# Altium schematic symbol library st-microelectronics.SCHLIB: 66 symbols
Pins are listed as number, name and electrical type; pins without a type are passive.

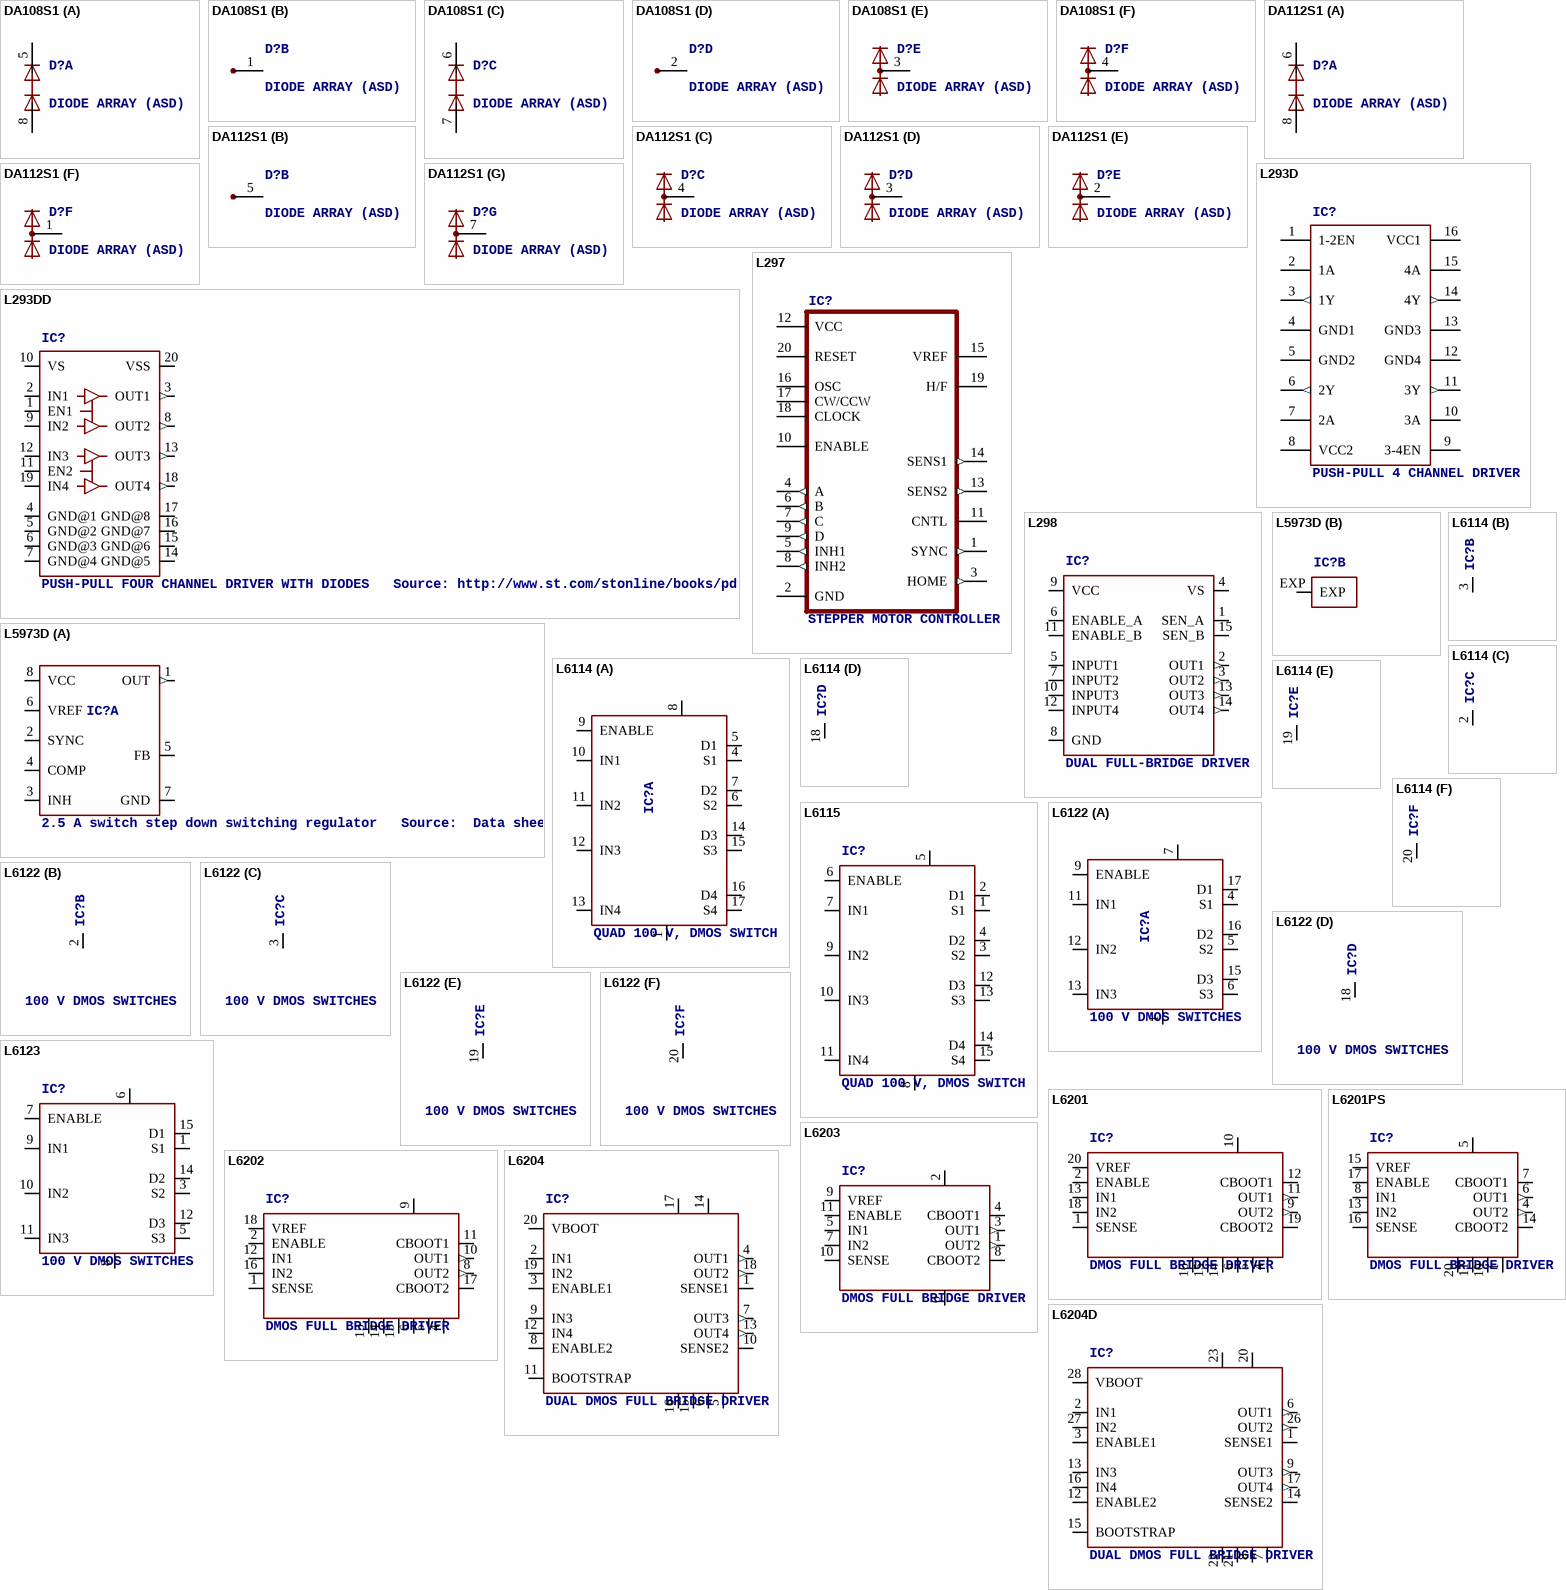
[diagram p0: symbols DA108S1 to L6204D]

## DA108S1
designator D?, comment DIODE ARRAY (ASD)
MPN: DA108S1; MF: Arrow Electronics; OC_FARNELL: 9802215; OC_NEWARK: 89K0513
footprint SO08
part A pins: 5 REF2, 8 REF1
part B pins: 1 K
part C pins: 6 REF2, 7 REF1
part D pins: 2 K
part E pins: 3 K
part F pins: 4 K

## DA112S1
designator D?, comment DIODE ARRAY (ASD)
MPN: DA112S1; MF: Arrow Electronics; OC_FARNELL: 9802223; OC_NEWARK: 89K0514
footprint SO08
part A pins: 6 REF2, 8 REF1
part B pins: 5 K
part C pins: 4 K
part D pins: 3 K
part E pins: 2 K
part F pins: 1 K
part G pins: 7 K

## L293D
designator IC?, comment PUSH-PULL 4 CHANNEL DRIVER
MPN: L293D; OC_FARNELL: 9589619; OC_NEWARK: 56P8249
footprint DIL16
pins: 1 1-2EN, 2 1A, 3 1Y (out), 4 GND1 (power), 5 GND2 (power), 6 2Y (out), 7 2A, 8 VCC2 (power), 9 3-4EN, 10 3A, 11 3Y (out), 12 GND4 (power), 13 GND3 (power), 14 4Y (out), 15 4A, 16 VCC1 (power)

## L293DD
designator IC?, comment PUSH-PULL FOUR CHANNEL DRIVER WITH DIODES   Source: http://www.st.com/stonline/books/pdf/docs/1330.pdf
OC_FARNELL: unknown
footprint SO20
pins: 1 EN1, 2 IN1, 3 OUT1 (out), 4 GND@1 (power), 5 GND@2 (power), 6 GND@3 (power), 7 GND@4 (power), 8 OUT2 (out), 9 IN2, 10 VS (power), 11 EN2, 12 IN3, 13 OUT3 (out), 14 GND@5 (power), 15 GND@6 (power), 16 GND@7 (power), 17 GND@8 (power), 18 OUT4 (out), 19 IN4, 20 VSS (power)

## L297
designator IC?, comment STEPPER MOTOR CONTROLLER
MPN: L297/1; OC_FARNELL: 1094209; OC_NEWARK: 56P8258
footprint DIL20
pins: 1 SYNC (out), 2 GND (power), 3 HOME (out), 4 A (out), 5 INH1 (out), 6 B (out), 7 C (out), 8 INH2 (out), 9 D (out), 10 ENABLE, 11 CNTL, 12 VCC (power), 13 SENS2 (out), 14 SENS1 (out), 15 VREF, 16 OSC, 17 CW/CCW, 18 CLOCK, 19 H/F, 20 RESET

## L298
designator IC?, comment DUAL FULL-BRIDGE DRIVER
MPN: L298N; OC_FARNELL: 1589425; OC_NEWARK: 32M1527
footprint MULTIWATT-15
pins: 1 SEN_A, 2 OUT1 (out), 3 OUT2 (out), 4 VS (power), 5 INPUT1, 6 ENABLE_A, 7 INPUT2, 8 GND (power), 9 VCC (power), 10 INPUT3, 11 ENABLE_B, 12 INPUT4, 13 OUT3 (out), 14 OUT4 (out), 15 SEN_B

## L5973D
designator IC?, comment 2.5 A switch step down switching regulator   Source:  Data sheet
MPN: L5973D; MF: STMICROELECTRONICS; OC_FARNELL: 1077145
footprint HSOP8
part A pins: 1 OUT (out), 2 SYNC, 3 INH, 4 COMP, 5 FB, 6 VREF, 7 GND (power), 8 VCC
part B pins: EXP

## L6114
designator IC?, comment QUAD 100 V, DMOS SWITCH
OC_FARNELL: unknown; OC_NEWARK: unknown
footprint DIL20
part A pins: 1 GND (power), 4 S1, 5 D1, 6 S2, 7 D2, 8 VCC (power), 9 ENABLE, 10 IN1, 11 IN2, 12 IN3, 13 IN4, 14 D3, 15 S3, 16 D4, 17 S4
part B pins: 3 GND (power)
part C pins: 2 GND (power)
part D pins: 18 GND (power)
part E pins: 19 GND (power)
part F pins: 20 GND (power)

## L6115
designator IC?, comment QUAD 100 V, DMOS SWITCH
OC_FARNELL: unknown; OC_NEWARK: unknown
footprint MULTIWATT-15
pins: 1 S1, 2 D1, 3 S2, 4 D2, 5 VCC (power), 6 ENABLE, 7 IN1, 8 GND (power), 9 IN2, 10 IN3, 11 IN4, 12 D3, 13 S3, 14 D4, 15 S4

## L6122
designator IC?, comment 100 V DMOS SWITCHES
OC_FARNELL: unknown; OC_NEWARK: unknown
footprint DIL20
part A pins: 1 GND (power), 4 S1, 5 S2, 6 S3, 7 VCC (power), 9 ENABLE, 11 IN1, 12 IN2, 13 IN3, 15 D3, 16 D2, 17 D1
part B pins: 2 GND (power)
part C pins: 3 GND (power)
part D pins: 18 GND (power)
part E pins: 19 GND (power)
part F pins: 20 GND (power)

## L6123
designator IC?, comment 100 V DMOS SWITCHES
OC_FARNELL: unknown; OC_NEWARK: unknown
footprint MULTIWATT-15
pins: 1 S1, 3 S2, 5 S3, 6 VCC (power), 7 ENABLE, 8 GND (power), 9 IN1, 10 IN2, 11 IN3, 12 D3, 14 D2, 15 D1

## L6201
designator IC?, comment DMOS FULL BRIDGE DRIVER
MPN: L6201; MF: Arrow Electronics; OC_FARNELL: 1271290; OC_NEWARK: 89K0750
footprint SO20
pins: 1 SENSE, 2 ENABLE, 4 GND (power), 5 GND@1 (power), 6 GND@2 (power), 9 OUT2 (out), 10 VS (power), 11 OUT1 (out), 12 CBOOT1, 13 IN1, 14 GND@3 (power), 15 GND@4 (power), 16 GND@5 (power), 18 IN2, 19 CBOOT2, 20 VREF

## L6201PS
designator IC?, comment DMOS FULL BRIDGE DRIVER
MPN: L6201PS; MF: Arrow Electronics; OC_FARNELL: 1077146; OC_NEWARK: 89K0751
footprint POWERSO-20
pins: 1 GND (power), 4 OUT2 (out), 5 VS (power), 6 OUT1 (out), 7 CBOOT1, 8 IN1, 10 GND@1 (power), 11 GND@2 (power), 13 IN2, 14 CBOOT2, 15 VREF, 16 SENSE, 17 ENABLE, 20 GND@3 (power)

## L6202
designator IC?, comment DMOS FULL BRIDGE DRIVER
MPN: L6202; OC_FARNELL: 1271291; OC_NEWARK: 26M0513
footprint DIL18
pins: 1 SENSE, 2 ENABLE, 4 GND (power), 5 GND@1 (power), 6 GND@2 (power), 8 OUT2 (out), 9 VS (power), 10 OUT1 (out), 11 CBOOT1, 12 IN1, 13 GND@3 (power), 14 GND@4 (power), 15 GND@5 (power), 16 IN2, 17 CBOOT2, 18 VREF

## L6203
designator IC?, comment DMOS FULL BRIDGE DRIVER
MPN: L6203; OC_FARNELL: 1467715; OC_NEWARK: 56P8434
footprint MULTIWATT-11
pins: 1 OUT2 (out), 2 VS (power), 3 OUT1 (out), 4 CBOOT1, 5 IN1, 6 GND (power), 7 IN2, 8 CBOOT2, 9 VREF, 10 SENSE, 11 ENABLE

## L6204
designator IC?, comment DUAL DMOS FULL BRIDGE DRIVER
MPN: E-L6204; OC_FARNELL: 1564367; OC_NEWARK: 56P7372
footprint DIL20
pins: 1 SENSE1, 2 IN1, 3 ENABLE1, 4 OUT1 (out), 5 GND (power), 6 GND@1 (power), 7 OUT3 (out), 8 ENABLE2, 9 IN3, 10 SENSE2, 11 BOOTSTRAP, 12 IN4, 13 OUT4 (out), 14 VS2 (power), 15 GND@2 (power), 16 GND@3 (power), 17 VS1 (power), 18 OUT2 (out), 19 IN2, 20 VBOOT

## L6204D
designator IC?, comment DUAL DMOS FULL BRIDGE DRIVER
MPN: L6204D; OC_FARNELL: unknown; OC_NEWARK: 37M3485
footprint SO28
pins: 1 SENSE1, 2 IN1, 3 ENABLE1, 6 OUT1 (out), 7 GND (power), 8 GND@1 (power), 9 OUT3 (out), 12 ENABLE2, 13 IN3, 14 SENSE2, 15 BOOTSTRAP, 16 IN4, 17 OUT4 (out), 20 VS2 (power), 21 GND@2 (power), 22 GND@3 (power), 23 VS1 (power), 26 OUT2 (out), 27 IN2, 28 VBOOT

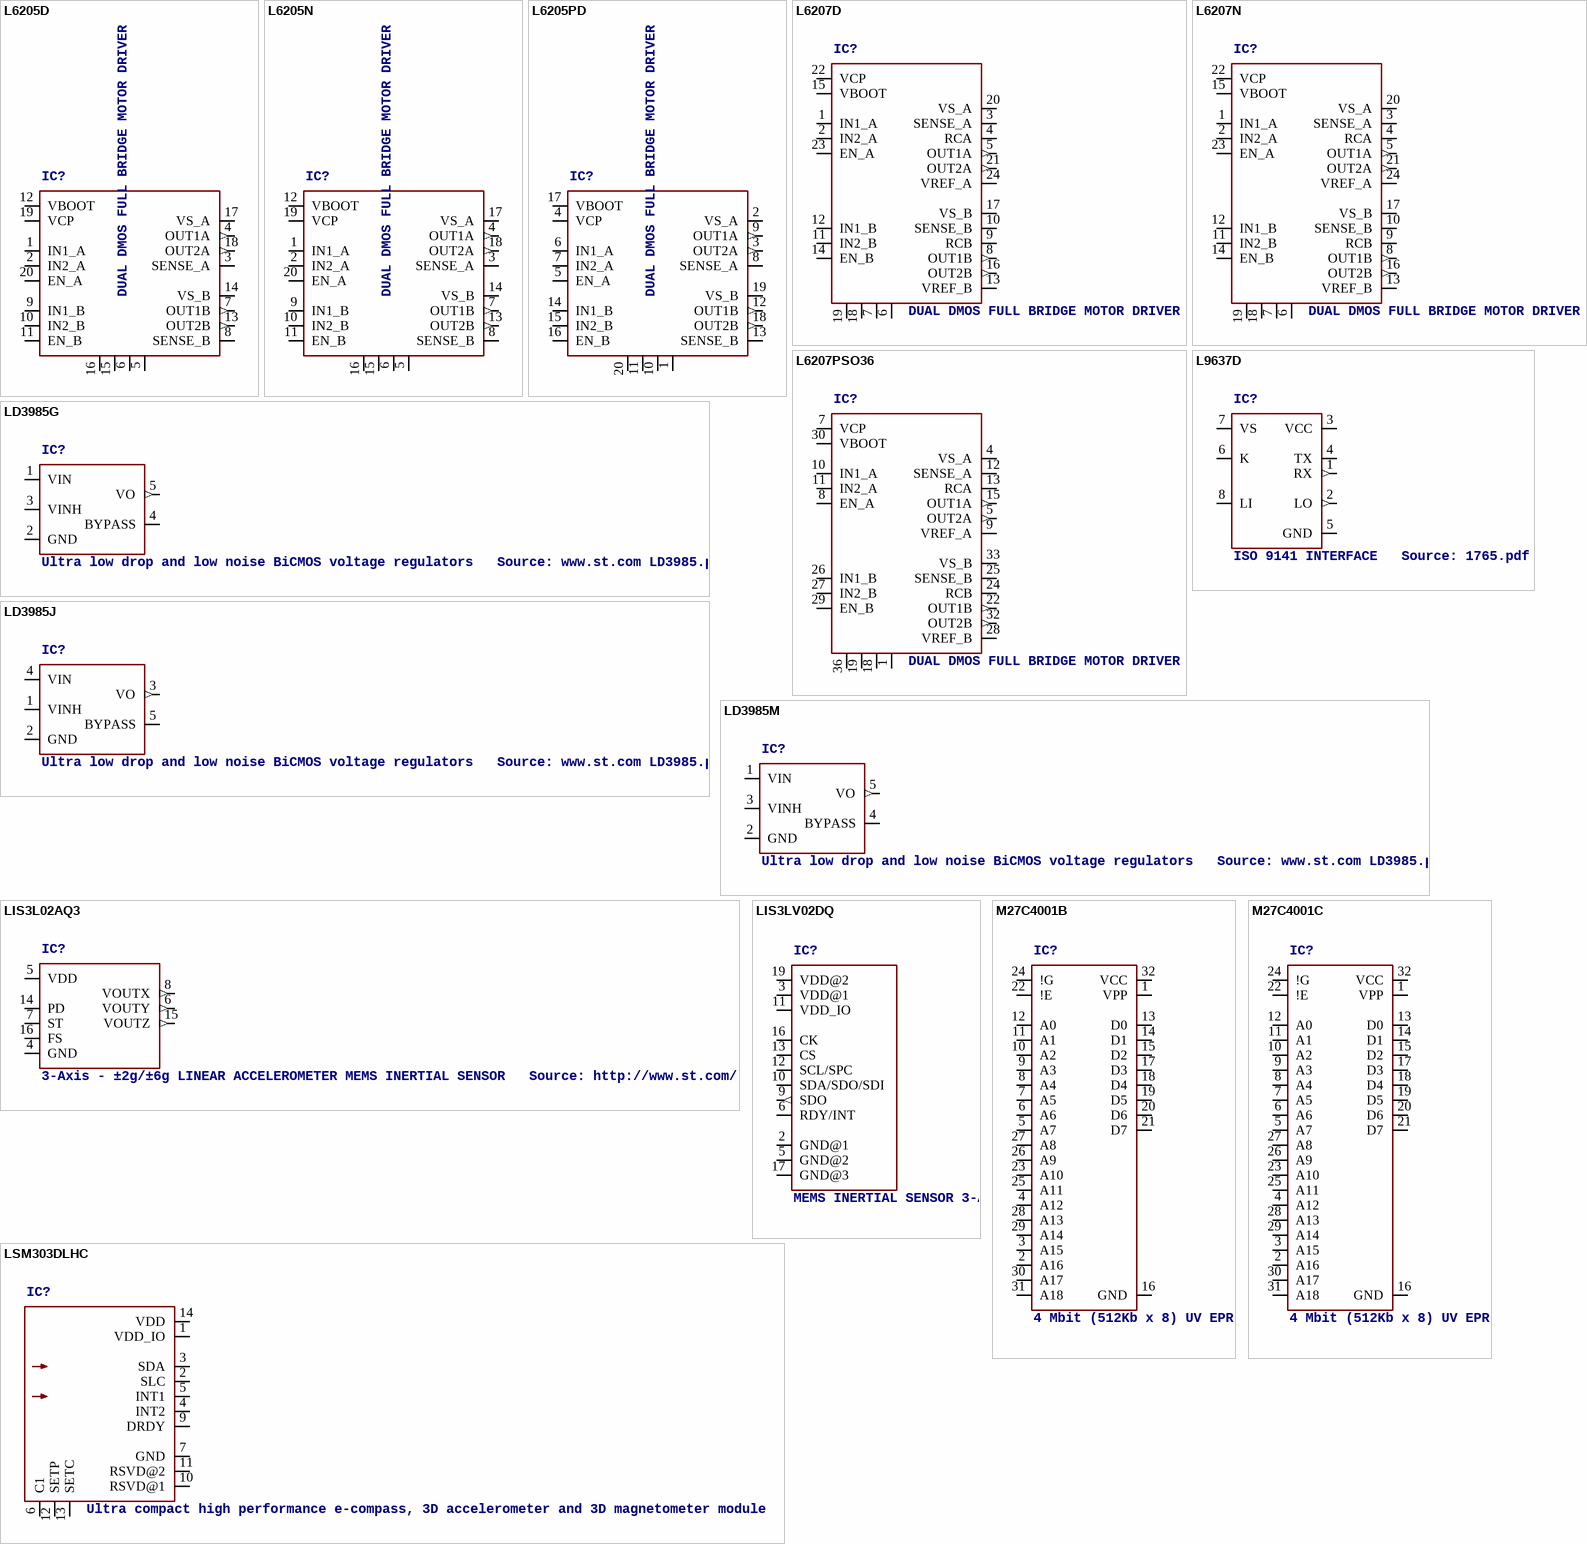
[diagram p1: symbols L6205D to M27C4001C]

## L6205D
designator IC?, comment DUAL DMOS FULL BRIDGE MOTOR DRIVER
MPN: L6205D; OC_FARNELL: unknown; OC_NEWARK: 37M3487
footprint SO20
pins: 1 IN1_A, 2 IN2_A, 3 SENSE_A, 4 OUT1A (out), 5 GND (power), 6 GND@1 (power), 7 OUT1B (out), 8 SENSE_B, 9 IN1_B, 10 IN2_B, 11 EN_B, 12 VBOOT (power), 13 OUT2B (out), 14 VS_B (power), 15 GND@2 (power), 16 GND@3 (power), 17 VS_A (power), 18 OUT2A (out), 19 VCP (power), 20 EN_A

## L6205N
designator IC?, comment DUAL DMOS FULL BRIDGE MOTOR DRIVER
MPN: L6205N; MF: Arrow Electronics; OC_FARNELL: 1564367; OC_NEWARK: 89K0754
footprint DIL20
pins: 1 IN1_A, 2 IN2_A, 3 SENSE_A, 4 OUT1A (out), 5 GND (power), 6 GND@1 (power), 7 OUT1B (out), 8 SENSE_B, 9 IN1_B, 10 IN2_B, 11 EN_B, 12 VBOOT (power), 13 OUT2B (out), 14 VS_B (power), 15 GND@2 (power), 16 GND@3 (power), 17 VS_A (power), 18 OUT2A (out), 19 VCP (power), 20 EN_A

## L6205PD
designator IC?, comment DUAL DMOS FULL BRIDGE MOTOR DRIVER
MPN: L6205PD; MF: Arrow Electronics; OC_FARNELL: unknown; OC_NEWARK: 89K0755
footprint POWERSO-20
pins: 1 GND (power), 2 VS_A (power), 3 OUT2A (out), 4 VCP (power), 5 EN_A, 6 IN1_A, 7 IN2_A, 8 SENSE_A, 9 OUT1A (out), 10 GND@1 (power), 11 GND@2 (power), 12 OUT1B (out), 13 SENSE_B, 14 IN1_B, 15 IN2_B, 16 EN_B, 17 VBOOT (power), 18 OUT2B (out), 19 VS_B (power), 20 GND@3 (power)

## L6207D
designator IC?, comment DUAL DMOS FULL BRIDGE MOTOR DRIVER
MPN: L6207D; OC_FARNELL: unknown; OC_NEWARK: 42M9976
footprint SO24W
pins: 1 IN1_A, 2 IN2_A, 3 SENSE_A, 4 RCA, 5 OUT1A (out), 6 GND (power), 7 GND@1 (power), 8 OUT1B (out), 9 RCB, 10 SENSE_B, 11 IN2_B, 12 IN1_B, 13 VREF_B, 14 EN_B, 15 VBOOT (power), 16 OUT2B (out), 17 VS_B (power), 18 GND@2 (power), 19 GND@3 (power), 20 VS_A (power), 21 OUT2A (out), 22 VCP (power), 23 EN_A, 24 VREF_A

## L6207N
designator IC?, comment DUAL DMOS FULL BRIDGE MOTOR DRIVER
MPN: L6207N; OC_FARNELL: unknown; OC_NEWARK: 56P8447
footprint DIL24S
pins: 1 IN1_A, 2 IN2_A, 3 SENSE_A, 4 RCA, 5 OUT1A (out), 6 GND (power), 7 GND@1 (power), 8 OUT1B (out), 9 RCB, 10 SENSE_B, 11 IN2_B, 12 IN1_B, 13 VREF_B, 14 EN_B, 15 VBOOT (power), 16 OUT2B (out), 17 VS_B (power), 18 GND@2 (power), 19 GND@3 (power), 20 VS_A (power), 21 OUT2A (out), 22 VCP (power), 23 EN_A, 24 VREF_A

## L6207PSO36
designator IC?, comment DUAL DMOS FULL BRIDGE MOTOR DRIVER
OC_FARNELL: unknown; OC_NEWARK: 56P8448
footprint POWERSO-36
pins: 1 GND (power), 4 VS_A (power), 5 OUT2A (out), 7 VCP (power), 8 EN_A, 9 VREF_A, 10 IN1_A, 11 IN2_A, 12 SENSE_A, 13 RCA, 15 OUT1A (out), 18 GND@1 (power), 19 GND@2 (power), 22 OUT1B (out), 24 RCB, 25 SENSE_B, 26 IN1_B, 27 IN2_B, 28 VREF_B, 29 EN_B, 30 VBOOT (power), 32 OUT2B (out), 33 VS_B (power), 36 GND@3 (power)

## L9637D
designator IC?, comment ISO 9141 INTERFACE   Source: 1765.pdf
MPN: L9637D; OC_FARNELL: unknown; OC_NEWARK: 56P8926
footprint SO08
pins: 1 RX (out), 2 LO (out), 3 VCC (power), 4 TX, 5 GND (power), 6 K, 7 VS (power), 8 LI

## LD3985G
designator IC?, comment Ultra low drop and low noise BiCMOS voltage regulators   Source: www.st.com LD3985.pdf
footprint TSOT23-5L
pins: 1 VIN, 2 GND (power), 3 VINH, 4 BYPASS, 5 VO (out)

## LD3985J
designator IC?, comment Ultra low drop and low noise BiCMOS voltage regulators   Source: www.st.com LD3985.pdf
footprint FLIP-CHIP-5
pins: 1 VINH, 2 GND (power), 3 VO (out), 4 VIN, 5 BYPASS

## LD3985M
designator IC?, comment Ultra low drop and low noise BiCMOS voltage regulators   Source: www.st.com LD3985.pdf
footprint SOT23-5L
pins: 1 VIN, 2 GND (power), 3 VINH, 4 BYPASS, 5 VO (out)

## LIS3L02AQ3
designator IC?, comment 3-Axis - ±2g/±6g LINEAR ACCELEROMETER MEMS INERTIAL SENSOR   Source: http://www.st.com/stonline/products/literature/ds/11020.pdf
MPN: LIS3L02AQ3; MF: Arrow Electronics; OC_FARNELL: 1467821; OC_NEWARK: 89K0645
footprint QFN-44-7X7
pins: 4 GND (power), 5 VDD (power), 6 VOUTY (out), 7 ST, 8 VOUTX (out), 14 PD, 15 VOUTZ (out), 16 FS

## LIS3LV02DQ
designator IC?, comment MEMS INERTIAL SENSOR 3-Axis - ±2g/±6g Digital Output Low Voltage Linear Accelerometer   Source: http://www.st.com/stonline/products/literature/ds/11115/lis3lv02dq.pdf
MF: Arrow Electronics; MPN: LIS3LV02DQ; OC_FARNELL: 1220909; OC_NEWARK: 89K0642
footprint QFPN-28
pins: 2 GND@1 (power), 3 VDD@1 (power), 5 GND@2 (power), 6 RDY/INT, 9 SDO (out), 10 SDA/SDO/SDI, 11 VDD_IO (power), 12 SCL/SPC, 13 CS, 16 CK, 17 GND@3 (power), 19 VDD@2 (power)

## LSM303DLHC
designator IC?, comment Ultra compact high performance e-compass, 3D accelerometer and 3D magnetometer module   Source: DM00027543-118326.pdf
footprint LGA-14
pins: 1 VDD_IO (power), 2 SLC, 3 SDA, 4 INT2, 5 INT1, 6 C1, 7 GND (power), 9 DRDY, 10 RSVD@1, 11 RSVD@2, 12 SETP, 13 SETC, 14 VDD (power)

## M27C4001B
designator IC?, comment 4 Mbit (512Kb x 8) UV EPROM and OTP EPROM   Source: www.st.com .. M27C4001 EPROM 4 MBIT.pdf
MPN: M27C4001-10B1; OC_FARNELL: 3338137; OC_NEWARK: 56P9200
footprint DIL32
pins: 1 VPP (power), 2 A16, 3 A15, 4 A12, 5 A7, 6 A6, 7 A5, 8 A4, 9 A3, 10 A2, 11 A1, 12 A0, 13 D0 (hiz), 14 D1 (hiz), 15 D2 (hiz), 16 GND (power), 17 D3 (hiz), 18 D4 (hiz), 19 D5 (hiz), 20 D6 (hiz), 21 D7 (hiz), 22 !E, 23 A10, 24 !G, 25 A11, 26 A9, 27 A8, 28 A13, 29 A14, 30 A17, 31 A18, 32 VCC (power)

## M27C4001C
designator IC?, comment 4 Mbit (512Kb x 8) UV EPROM and OTP EPROM   Source: www.st.com .. M27C4001 EPROM 4 MBIT.pdf
MPN: M27C4001-10C1; OC_FARNELL: 1094260; OC_NEWARK: 24M5086
footprint LCC32
pins: 1 VPP (power), 2 A16, 3 A15, 4 A12, 5 A7, 6 A6, 7 A5, 8 A4, 9 A3, 10 A2, 11 A1, 12 A0, 13 D0 (hiz), 14 D1 (hiz), 15 D2 (hiz), 16 GND (power), 17 D3 (hiz), 18 D4 (hiz), 19 D5 (hiz), 20 D6 (hiz), 21 D7 (hiz), 22 !E, 23 A10, 24 !G, 25 A11, 26 A9, 27 A8, 28 A13, 29 A14, 30 A17, 31 A18, 32 VCC (power)

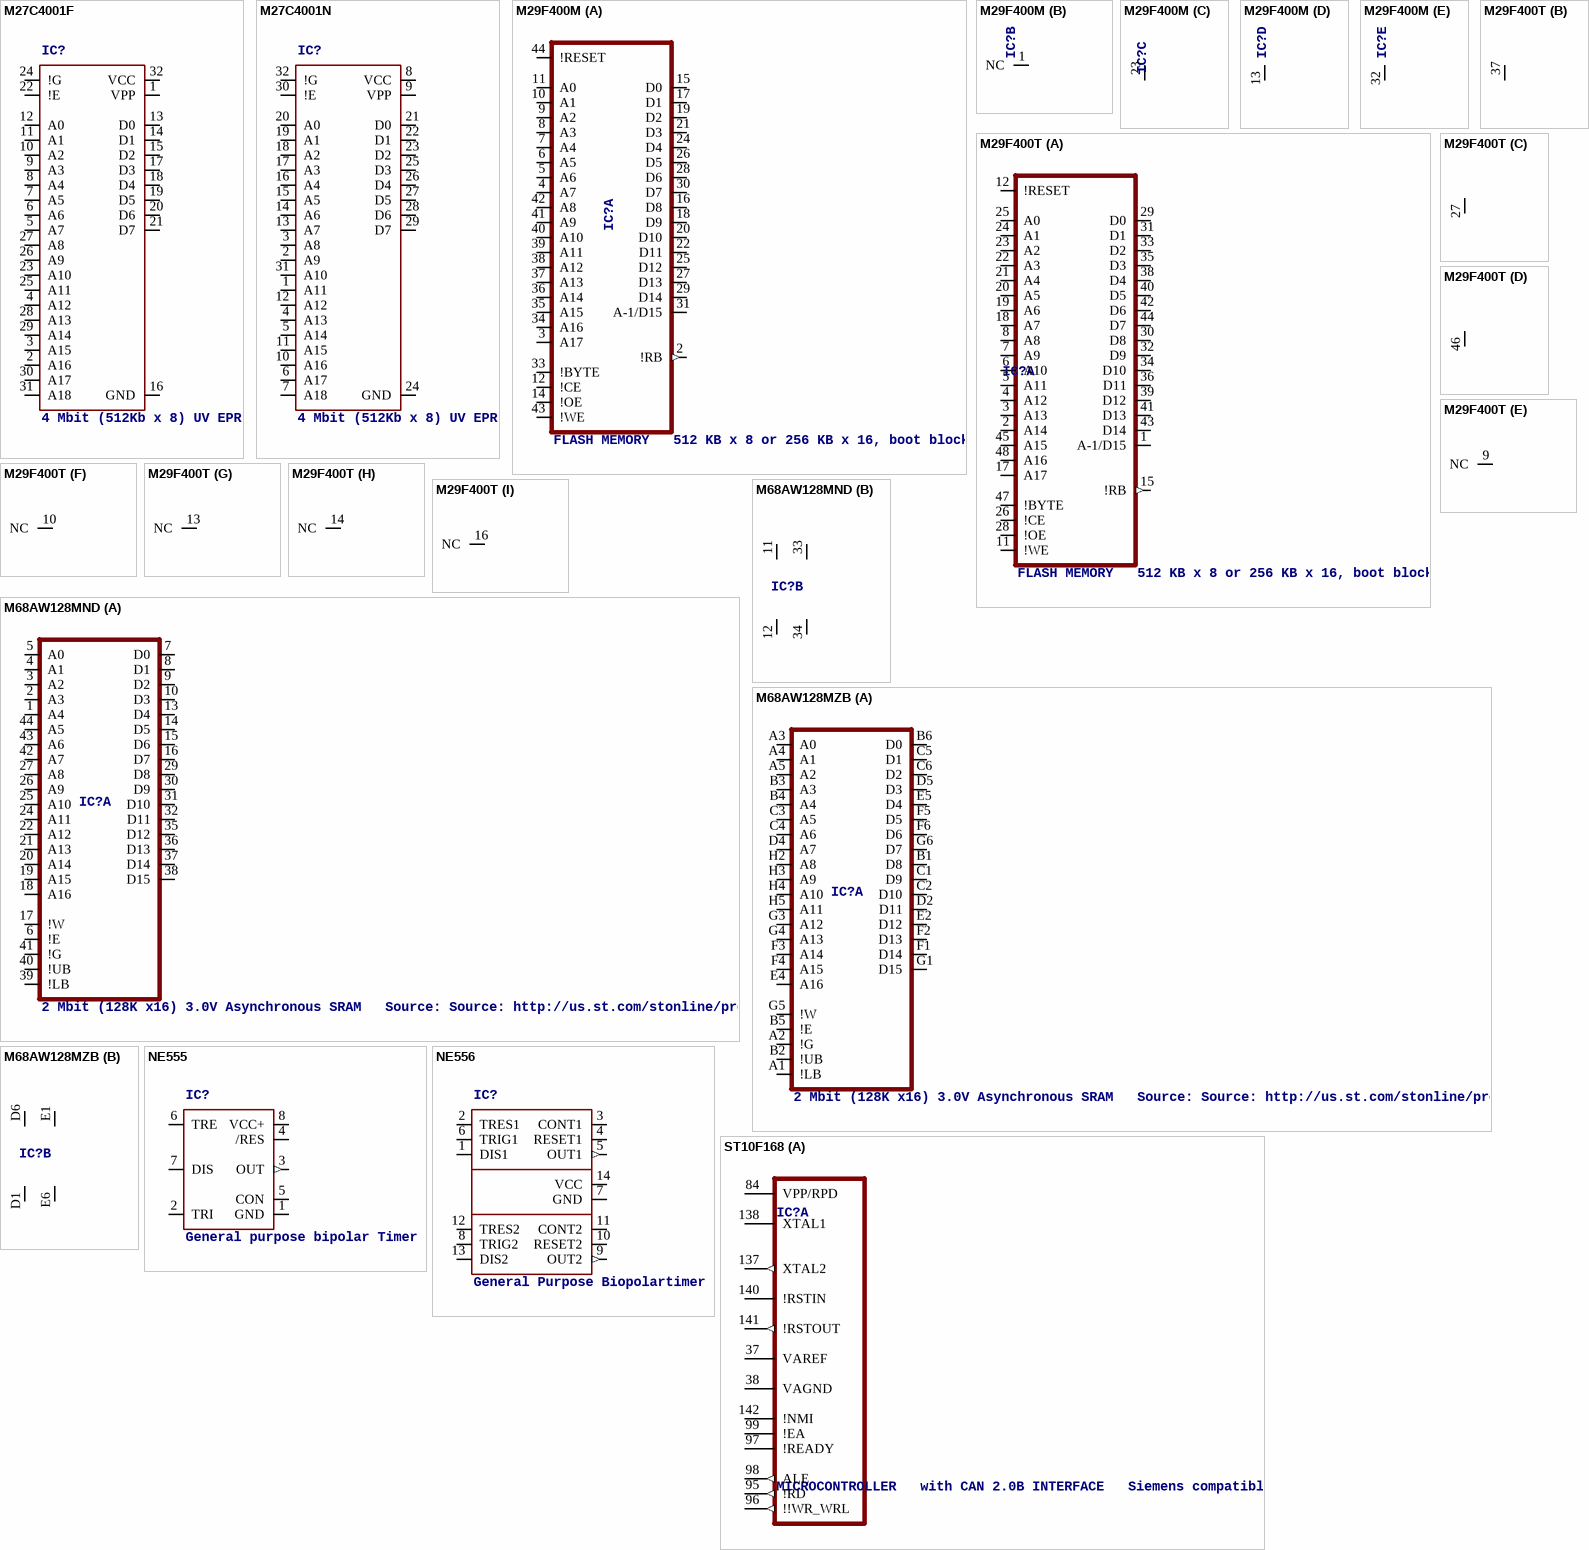
[diagram p2: symbols M27C4001F to ST10F168]

## M27C4001F
designator IC?, comment 4 Mbit (512Kb x 8) UV EPROM and OTP EPROM   Source: www.st.com .. M27C4001 EPROM 4 MBIT.pdf
MPN: M27C4001-15F1; OC_FARNELL: 1132004; OC_NEWARK: 24M5087
footprint FDIP32
pins: 1 VPP (power), 2 A16, 3 A15, 4 A12, 5 A7, 6 A6, 7 A5, 8 A4, 9 A3, 10 A2, 11 A1, 12 A0, 13 D0 (hiz), 14 D1 (hiz), 15 D2 (hiz), 16 GND (power), 17 D3 (hiz), 18 D4 (hiz), 19 D5 (hiz), 20 D6 (hiz), 21 D7 (hiz), 22 !E, 23 A10, 24 !G, 25 A11, 26 A9, 27 A8, 28 A13, 29 A14, 30 A17, 31 A18, 32 VCC (power)

## M27C4001N
designator IC?, comment 4 Mbit (512Kb x 8) UV EPROM and OTP EPROM   Source: www.st.com .. M27C4001 EPROM 4 MBIT.pdf
OC_FARNELL: unknown; OC_NEWARK: unknown
footprint TSOP32
pins: 1 A11, 2 A9, 3 A8, 4 A13, 5 A14, 6 A17, 7 A18, 8 VCC (power), 9 VPP (power), 10 A16, 11 A15, 12 A12, 13 A7, 14 A6, 15 A5, 16 A4, 17 A3, 18 A2, 19 A1, 20 A0, 21 D0 (hiz), 22 D1 (hiz), 23 D2 (hiz), 24 GND (power), 25 D3 (hiz), 26 D4 (hiz), 27 D5 (hiz), 28 D6 (hiz), 29 D7 (hiz), 30 !E, 31 A10, 32 !G

## M29F400M
designator IC?, comment FLASH MEMORY   512 KB x 8 or 256 KB x 16, boot block
MPN: AM29F400BB-90SF; MF: SPANSION LLC; OC_FARNELL: 1607577; OC_NEWARK: 58K5516
footprint SO44
part A pins: 2 !RB (out), 3 A17, 4 A7, 5 A6, 6 A5, 7 A4, 8 A3, 9 A2, 10 A1, 11 A0, 12 !CE, 14 !OE, 15 D0 (hiz), 16 D8 (hiz), 17 D1 (hiz), 18 D9 (hiz), 19 D2 (hiz), 20 D10 (hiz), 21 D3 (hiz), 22 D11 (hiz), 24 D4 (hiz), 25 D12 (hiz), 26 D5 (hiz), 27 D13 (hiz), 28 D6 (hiz), 29 D14 (hiz), 30 D7 (hiz), 31 A-1/D15 (hiz), 33 !BYTE, 34 A16, 35 A15, 36 A14, 37 A13, 38 A12, 39 A11, 40 A10, 41 A9, 42 A8, 43 !WE, 44 !RESET
part B pins: 1 NC
part C pins: 23 VCC (power)
part D pins: 13 GND (power)
part E pins: 32 GND (power)

## M29F400T
designator IC?, comment FLASH MEMORY   512 KB x 8 or 256 KB x 16, boot block
MPN: MBM29F400TC-70PFTN-SFLE1; OC_FARNELL: 1201518; OC_NEWARK: 89M1908
footprint TSOP48
part A pins: 1 A-1/D15 (hiz), 2 A14, 3 A13, 4 A12, 5 A11, 6 A10, 7 A9, 8 A8, 11 !WE, 12 !RESET, 15 !RB (out), 17 A17, 18 A7, 19 A6, 20 A5, 21 A4, 22 A3, 23 A2, 24 A1, 25 A0, 26 !CE, 28 !OE, 29 D0 (hiz), 30 D8 (hiz), 31 D1 (hiz), 32 D9 (hiz), 33 D2 (hiz), 34 D10 (hiz), 35 D3 (hiz), 36 D11 (hiz), 38 D4 (hiz), 39 D12 (hiz), 40 D5 (hiz), 41 D13 (hiz), 42 D6 (hiz), 43 D14 (hiz), 44 D7 (hiz), 45 A15, 47 !BYTE, 48 A16
part B pins: 37 VCC (power)
part C pins: 27 GND (power)
part D pins: 46 GND (power)
part E pins: 9 NC
part F pins: 10 NC
part G pins: 13 NC
part H pins: 14 NC
part I pins: 16 NC

## M68AW128MND
designator IC?, comment 2 Mbit (128K x16) 3.0V Asynchronous SRAM   Source: Source: http://us.st.com/stonline/products/literature/ds/7995.pdf
OC_FARNELL: unknown; OC_NEWARK: unknown
footprint TSOP44-II
part A pins: 1 A4, 2 A3, 3 A2, 4 A1, 5 A0, 6 !E, 7 D0 (hiz), 8 D1 (hiz), 9 D2 (hiz), 10 D3 (hiz), 13 D4 (hiz), 14 D5 (hiz), 15 D6 (hiz), 16 D7 (hiz), 17 !W, 18 A16, 19 A15, 20 A14, 21 A13, 22 A12, 24 A11, 25 A10, 26 A9, 27 A8, 29 D8 (hiz), 30 D9 (hiz), 31 D10 (hiz), 32 D11 (hiz), 35 D12 (hiz), 36 D13 (hiz), 37 D14 (hiz), 38 D15 (hiz), 39 !LB, 40 !UB, 41 !G, 42 A7, 43 A6, 44 A5
part B pins: 11 VCC@1 (power), 12 VSS@1 (power), 33 VCC@2 (power), 34 VSS@2 (power)

## M68AW128MZB
designator IC?, comment 2 Mbit (128K x16) 3.0V Asynchronous SRAM   Source: Source: http://us.st.com/stonline/products/literature/ds/7995.pdf
MPN: M68AW128ML70ZB6; OC_FARNELL: unknown; OC_NEWARK: 37M5198
footprint TFBGA48
part A pins: A1 !LB, A2 !G, A3 A0, A4 A1, A5 A2, B1 D8 (hiz), B2 !UB, B3 A3, B4 A4, B5 !E, B6 D0 (hiz), C1 D9 (hiz), C2 D10 (hiz), C3 A5, C4 A6, C5 D1 (hiz), C6 D2 (hiz), D2 D11 (hiz), D4 A7, D5 D3 (hiz), E2 D12 (hiz), E4 A16, E5 D4 (hiz), F1 D14 (hiz), F2 D13 (hiz), F3 A14, F4 A15, F5 D5 (hiz), F6 D6 (hiz), G1 D15 (hiz), G3 A12, G4 A13, G5 !W, G6 D7 (hiz), H2 A8, H3 A9, H4 A10, H5 A11
part B pins: D1 VSS@1 (power), D6 VCC@1 (power), E1 VCC@2 (power), E6 VSS@2 (power)

## NE555
designator IC?, comment General purpose bipolar Timer
MPN: NE555N; MF: Arrow Electronics; OC_FARNELL: 1467742; OC_NEWARK: 89K1486
footprint DIL-08
pins: 1 GND (power), 2 TRI, 3 OUT (out), 4 /RES, 5 CON, 6 TRE, 7 DIS, 8 VCC+ (power)

## NE556
designator IC?, comment General Purpose Biopolartimer
MPN: NE556; OC_FARNELL: 2349784; OC_NEWARK: 83C0108
footprint DIL14
pins: 1 DIS1, 2 TRES1, 3 CONT1, 4 RESET1, 5 OUT1 (out), 6 TRIG1, 7 GND (power), 8 TRIG2, 9 OUT2 (out), 10 RESET2, 11 CONT2, 12 TRES2, 13 DIS2, 14 VCC (power)

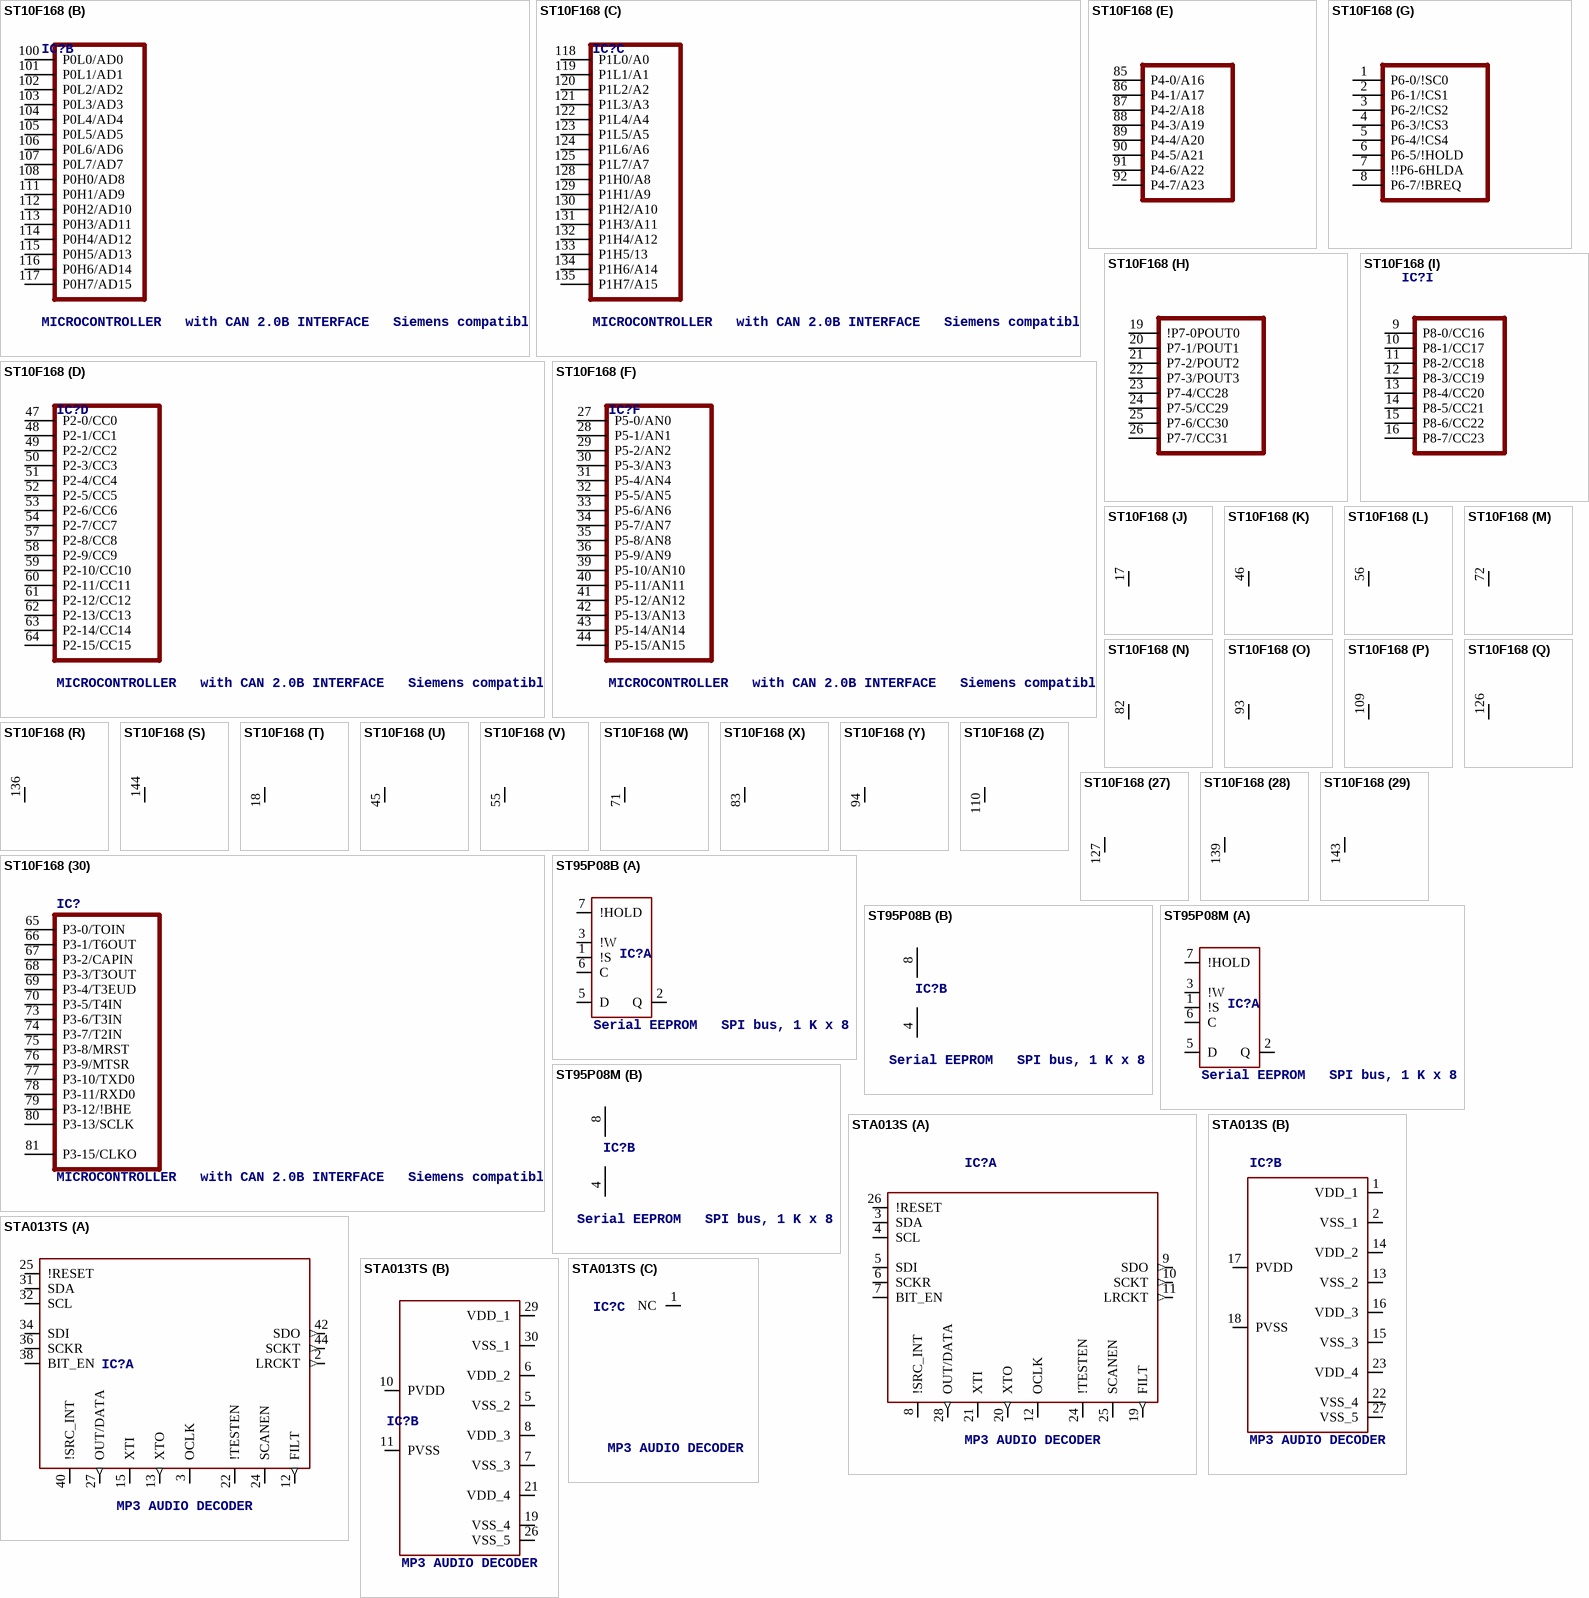
[diagram p3: symbols ST10F168 to STA013TS]

## ST10F168
designator IC?, comment MICROCONTROLLER   with CAN 2.0B INTERFACE   Siemens compatible
MPN: ST10F168SQ6/TR; OC_FARNELL: 1796092; OC_NEWARK: 37M7384
footprint PQFP144-28X28
part A pins: 37 VAREF, 38 VAGND, 84 VPP/RPD, 95 !RD (out), 96 !!WR_WRL (out), 97 !READY, 98 ALE (out), 99 !EA, 137 XTAL2 (out), 138 XTAL1, 140 !RSTIN, 141 !RSTOUT (out), 142 !NMI
part B pins: 100 P0L0/AD0, 101 P0L1/AD1, 102 P0L2/AD2, 103 P0L3/AD3, 104 P0L4/AD4, 105 P0L5/AD5, 106 P0L6/AD6, 107 P0L7/AD7, 108 P0H0/AD8, 111 P0H1/AD9, 112 P0H2/AD10, 113 P0H3/AD11, 114 P0H4/AD12, 115 P0H5/AD13, 116 P0H6/AD14, 117 P0H7/AD15
part C pins: 118 P1L0/A0, 119 P1L1/A1, 120 P1L2/A2, 121 P1L3/A3, 122 P1L4/A4, 123 P1L5/A5, 124 P1L6/A6, 125 P1L7/A7, 128 P1H0/A8, 129 P1H1/A9, 130 P1H2/A10, 131 P1H3/A11, 132 P1H4/A12, 133 P1H5/13, 134 P1H6/A14, 135 P1H7/A15
part D pins: 47 P2-0/CC0, 48 P2-1/CC1, 49 P2-2/CC2, 50 P2-3/CC3, 51 P2-4/CC4, 52 P2-5/CC5, 53 P2-6/CC6, 54 P2-7/CC7, 57 P2-8/CC8, 58 P2-9/CC9, 59 P2-10/CC10, 60 P2-11/CC11, 61 P2-12/CC12, 62 P2-13/CC13, 63 P2-14/CC14, 64 P2-15/CC15
part E pins: 85 P4-0/A16, 86 P4-1/A17, 87 P4-2/A18, 88 P4-3/A19, 89 P4-4/A20, 90 P4-5/A21, 91 P4-6/A22, 92 P4-7/A23
part F pins: 27 P5-0/AN0, 28 P5-1/AN1, 29 P5-2/AN2, 30 P5-3/AN3, 31 P5-4/AN4, 32 P5-5/AN5, 33 P5-6/AN6, 34 P5-7/AN7, 35 P5-8/AN8, 36 P5-9/AN9, 39 P5-10/AN10, 40 P5-11/AN11, 41 P5-12/AN12, 42 P5-13/AN13, 43 P5-14/AN14, 44 P5-15/AN15
part G pins: 1 P6-0/!SC0, 2 P6-1/!CS1, 3 P6-2/!CS2, 4 P6-3/!CS3, 5 P6-4/!CS4, 6 P6-5/!HOLD, 7 !!P6-6HLDA, 8 P6-7/!BREQ
part H pins: 19 !P7-0POUT0, 20 P7-1/POUT1, 21 P7-2/POUT2, 22 P7-3/POUT3, 23 P7-4/CC28, 24 P7-5/CC29, 25 P7-6/CC30, 26 P7-7/CC31
part I pins: 9 P8-0/CC16, 10 P8-1/CC17, 11 P8-2/CC18, 12 P8-3/CC19, 13 P8-4/CC20, 14 P8-5/CC21, 15 P8-6/CC22, 16 P8-7/CC23
part J pins: 17 VDD (power)
part K pins: 46 VDD (power)
part L pins: 56 VDD (power)
part M pins: 72 VDD (power)
part N pins: 82 VDD (power)
part O pins: 93 VDD (power)
part P pins: 109 VDD (power)
part Q pins: 126 VDD (power)
part R pins: 136 VDD (power)
part S pins: 144 VDD (power)
part T pins: 18 VSS (power)
part U pins: 45 VSS (power)
part V pins: 55 VSS (power)
part W pins: 71 VSS (power)
part X pins: 83 VSS (power)
part Y pins: 94 VSS (power)
part Z pins: 110 VSS (power)
part 27 pins: 127 VSS (power)
part 28 pins: 139 VSS (power)
part 29 pins: 143 VSS (power)
part 30 pins: 65 P3-0/TOIN, 66 P3-1/T6OUT, 67 P3-2/CAPIN, 68 P3-3/T3OUT, 69 P3-4/T3EUD, 70 P3-5/T4IN, 73 P3-6/T3IN, 74 P3-7/T2IN, 75 P3-8/MRST, 76 P3-9/MTSR, 77 P3-10/TXD0, 78 P3-11/RXD0, 79 P3-12/!BHE, 80 P3-13/SCLK, 81 P3-15/CLKO

## ST95P08B
designator IC?, comment Serial EEPROM   SPI bus, 1 K x 8
OC_FARNELL: unknown; OC_NEWARK: unknown
footprint DIL-08
part A pins: 1 !S, 2 Q (hiz), 3 !W, 5 D, 6 C, 7 !HOLD
part B pins: 4 GND (power), 8 VCC (power)

## ST95P08M
designator IC?, comment Serial EEPROM   SPI bus, 1 K x 8
OC_FARNELL: unknown; OC_NEWARK: unknown
footprint SO08
part A pins: 1 !S, 2 Q (hiz), 3 !W, 5 D, 6 C, 7 !HOLD
part B pins: 4 GND (power), 8 VCC (power)

## STA013S
designator IC?, comment MP3 AUDIO DECODER
MPN: STA013$; OC_FARNELL: unknown; OC_NEWARK: 57P0489
footprint SO28W
part A pins: 3 SDA, 4 SCL, 5 SDI, 6 SCKR, 7 BIT_EN, 8 !SRC_INT, 9 SDO (out), 10 SCKT (out), 11 LRCKT (out), 12 OCLK, 19 FILT (out), 20 XTO (out), 21 XTI, 24 !TESTEN, 25 SCANEN, 26 !RESET, 28 OUT/DATA (out)
part B pins: 1 VDD_1 (power), 2 VSS_1 (power), 13 VSS_2 (power), 14 VDD_2 (power), 15 VSS_3 (power), 16 VDD_3 (power), 17 PVDD (power), 18 PVSS (power), 22 VSS_4 (power), 23 VDD_4 (power), 27 VSS_5 (power)

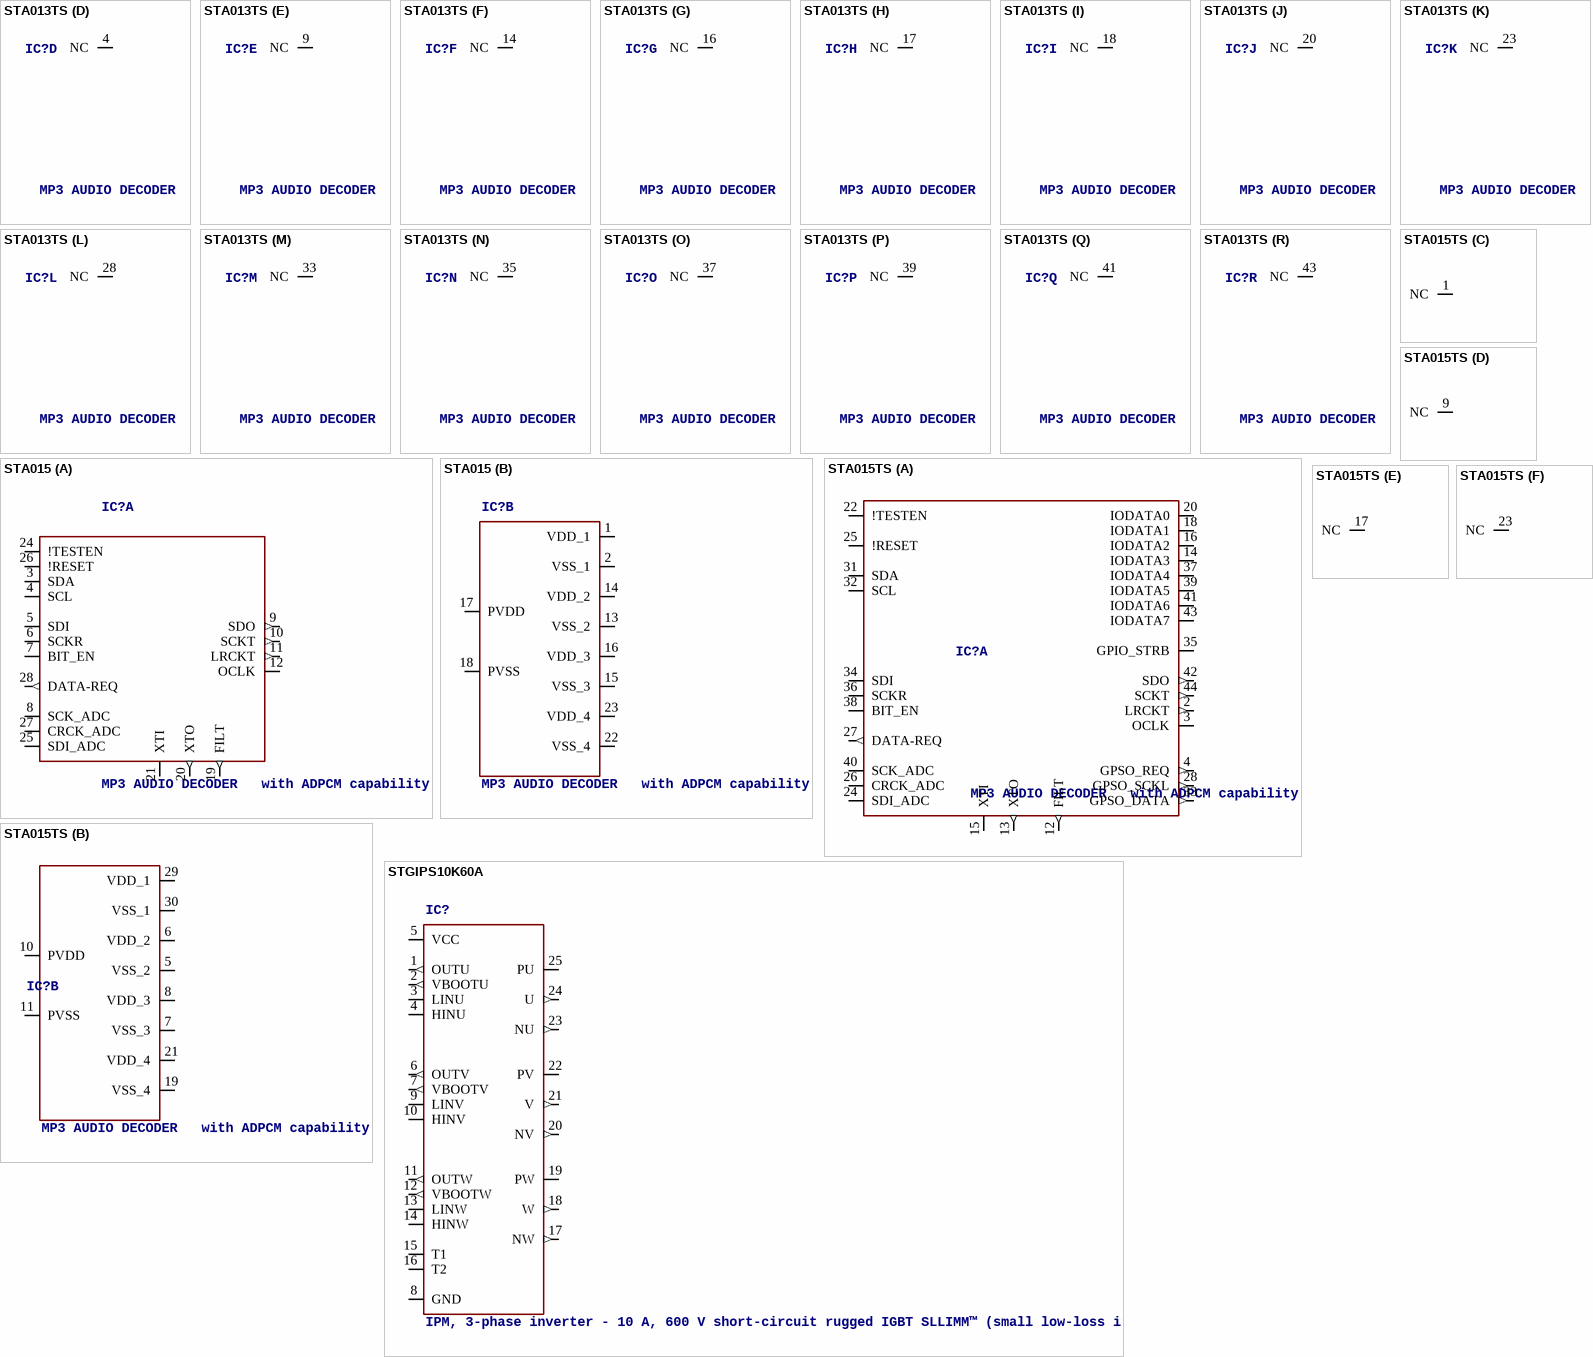
[diagram p4: symbols STA013TS to STGIPS10K60A]

## STA013TS
designator IC?, comment MP3 AUDIO DECODER
MPN: STA013T$; OC_FARNELL: unknown; OC_NEWARK: 57P0492
footprint TQFP44
part A pins: 2 LRCKT (out), 3 OCLK, 12 FILT (out), 13 XTO (out), 15 XTI, 22 !TESTEN, 24 SCANEN, 25 !RESET, 27 OUT/DATA (out), 31 SDA, 32 SCL, 34 SDI, 36 SCKR, 38 BIT_EN, 40 !SRC_INT, 42 SDO (out), 44 SCKT (out)
part B pins: 5 VSS_2 (power), 6 VDD_2 (power), 7 VSS_3 (power), 8 VDD_3 (power), 10 PVDD (power), 11 PVSS (power), 19 VSS_4 (power), 21 VDD_4 (power), 26 VSS_5 (power), 29 VDD_1 (power), 30 VSS_1 (power)
part C pins: 1 NC
part D pins: 4 NC
part E pins: 9 NC
part F pins: 14 NC
part G pins: 16 NC
part H pins: 17 NC
part I pins: 18 NC
part J pins: 20 NC
part K pins: 23 NC
part L pins: 28 NC
part M pins: 33 NC
part N pins: 35 NC
part O pins: 37 NC
part P pins: 39 NC
part Q pins: 41 NC
part R pins: 43 NC

## STA015
designator IC?, comment MP3 AUDIO DECODER   with ADPCM capability
MPN: STA015$; OC_FARNELL: unknown; OC_NEWARK: 37M6100
footprint SO28W
part A pins: 3 SDA, 4 SCL, 5 SDI, 6 SCKR, 7 BIT_EN, 8 SCK_ADC, 9 SDO (out), 10 SCKT (out), 11 LRCKT (out), 12 OCLK, 19 FILT (out), 20 XTO (out), 21 XTI, 24 !TESTEN, 25 SDI_ADC, 26 !RESET, 27 CRCK_ADC, 28 DATA-REQ (out)
part B pins: 1 VDD_1 (power), 2 VSS_1 (power), 13 VSS_2 (power), 14 VDD_2 (power), 15 VSS_3 (power), 16 VDD_3 (power), 17 PVDD (power), 18 PVSS (power), 22 VSS_4 (power), 23 VDD_4 (power)

## STA015TS
designator IC?, comment MP3 AUDIO DECODER   with ADPCM capability
MPN: STA015T$; OC_FARNELL: unknown; OC_NEWARK: 37M6104
footprint TQFP44
part A pins: 2 LRCKT (out), 3 OCLK, 4 GPSO_REQ (out), 12 FILT (out), 13 XTO (out), 14 IODATA3, 15 XTI, 16 IODATA2, 18 IODATA1, 20 IODATA0, 22 !TESTEN, 24 SDI_ADC, 25 !RESET, 26 CRCK_ADC, 27 DATA-REQ (out), 28 GPSO_SCKL (out), 31 SDA, 32 SCL, 33 GPSO_DATA (out), 34 SDI, 35 GPIO_STRB, 36 SCKR, 37 IODATA4, 38 BIT_EN, 39 IODATA5, 40 SCK_ADC, 41 IODATA6, 42 SDO (out), 43 IODATA7, 44 SCKT (out)
part B pins: 5 VSS_2 (power), 6 VDD_2 (power), 7 VSS_3 (power), 8 VDD_3 (power), 10 PVDD (power), 11 PVSS (power), 19 VSS_4 (power), 21 VDD_4 (power), 29 VDD_1 (power), 30 VSS_1 (power)
part C pins: 1 NC
part D pins: 9 NC
part E pins: 17 NC
part F pins: 23 NC

## STGIPS10K60A
designator IC?, comment IPM, 3-phase inverter - 10 A, 600 V short-circuit rugged IGBT SLLIMM™ (small low-loss intelligent molded module)    Source:  Data sheet
footprint SDIP-25L
pins: 1 OUTU (out), 2 VBOOTU (out), 3 LINU, 4 HINU, 5 VCC (power), 6 OUTV (out), 7 VBOOTV (out), 8 GND (power), 9 LINV, 10 HINV, 11 OUTW (out), 12 VBOOTW (out), 13 LINW, 14 HINW, 15 T1, 16 T2, 17 NW (out), 18 W (out), 19 PW (power), 20 NV (out), 21 V (out), 22 PV (power), 23 NU (out), 24 U (out), 25 PU (power)

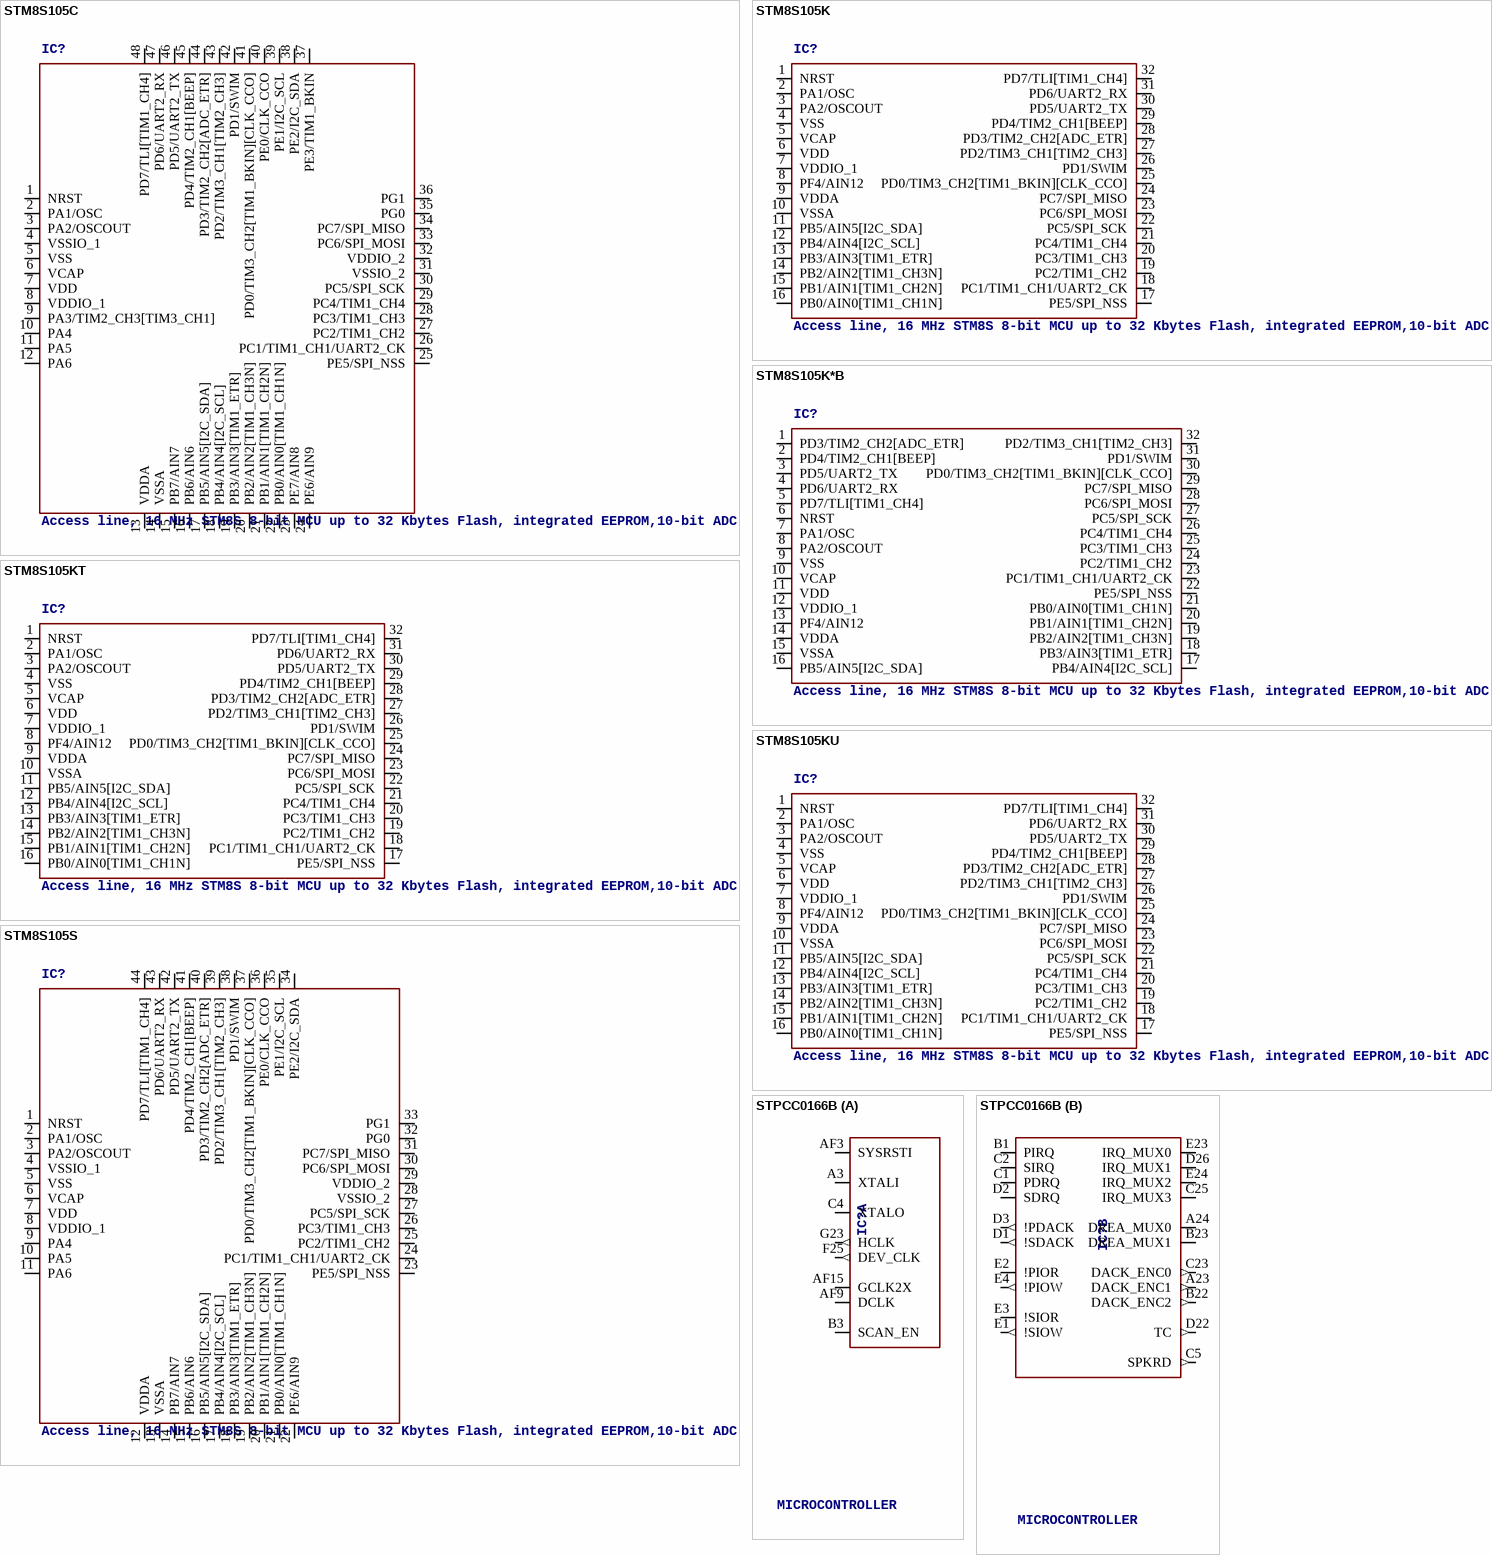
[diagram p5: symbols STM8S105C to STPCC0166B]

## STM8S105C
designator IC?, comment Access line, 16 MHz STM8S 8-bit MCU up to 32 Kbytes Flash, integrated EEPROM,10-bit ADC, timers, UART, SPI, I²C   Source:  Data sheet
MPN: STM8S105C4T6; MPN: STM8S105C6T6; OC_FARNELL: 1706221; OC_NEWARK: 09R6031; OC_FARNELL: 1706222; OC_NEWARK: 09R6033
footprint LQFP48-7X7
pins: 1 NRST, 2 PA1/OSC, 3 PA2/OSCOUT, 4 VSSIO_1 (power), 5 VSS (power), 6 VCAP (power), 7 VDD (power), 8 VDDIO_1 (power), 9 PA3/TIM2_CH3[TIM3_CH1], 10 PA4, 11 PA5, 12 PA6, 13 VDDA (power), 14 VSSA (power), 15 PB7/AIN7, 16 PB6/AIN6, 17 PB5/AIN5[I2C_SDA], 18 PB4/AIN4[I2C_SCL], 19 PB3/AIN3[TIM1_ETR], 20 PB2/AIN2[TIM1_CH3N], 21 PB1/AIN1[TIM1_CH2N], 22 PB0/AIN0[TIM1_CH1N], 23 PE7/AIN8, 24 PE6/AIN9, 25 PE5/SPI_NSS, 26 PC1/TIM1_CH1/UART2_CK, 27 PC2/TIM1_CH2, 28 PC3/TIM1_CH3, 29 PC4/TIM1_CH4, 30 PC5/SPI_SCK, 31 VSSIO_2 (power), 32 VDDIO_2 (power), 33 PC6/SPI_MOSI, 34 PC7/SPI_MISO, 35 PG0, 36 PG1, 37 PE3/TIM1_BKIN, 38 PE2/I2C_SDA, 39 PE1/I2C_SCL, 40 PE0/CLK_CCO, 41 PD0/TIM3_CH2[TIM1_BKIN][CLK_CCO], 42 PD1/SWIM, 43 PD2/TIM3_CH1[TIM2_CH3], 44 PD3/TIM2_CH2[ADC_ETR], 45 PD4/TIM2_CH1[BEEP], 46 PD5/UART2_TX, 47 PD6/UART2_RX, 48 PD7/TLI[TIM1_CH4]

## STM8S105K
designator IC?, comment Access line, 16 MHz STM8S 8-bit MCU up to 32 Kbytes Flash, integrated EEPROM,10-bit ADC, timers, UART, SPI, I²C   Source:  Data sheet
MPN: STM8S105K4U6; OC_FARNELL: 1706225; OC_NEWARK: 55R6975
footprint UFQFPN32
pins: 1 NRST, 2 PA1/OSC, 3 PA2/OSCOUT, 4 VSS (power), 5 VCAP (power), 6 VDD (power), 7 VDDIO_1 (power), 8 PF4/AIN12, 9 VDDA (power), 10 VSSA (power), 11 PB5/AIN5[I2C_SDA], 12 PB4/AIN4[I2C_SCL], 13 PB3/AIN3[TIM1_ETR], 14 PB2/AIN2[TIM1_CH3N], 15 PB1/AIN1[TIM1_CH2N], 16 PB0/AIN0[TIM1_CH1N], 17 PE5/SPI_NSS, 18 PC1/TIM1_CH1/UART2_CK, 19 PC2/TIM1_CH2, 20 PC3/TIM1_CH3, 21 PC4/TIM1_CH4, 22 PC5/SPI_SCK, 23 PC6/SPI_MOSI, 24 PC7/SPI_MISO, 25 PD0/TIM3_CH2[TIM1_BKIN][CLK_CCO], 26 PD1/SWIM, 27 PD2/TIM3_CH1[TIM2_CH3], 28 PD3/TIM2_CH2[ADC_ETR], 29 PD4/TIM2_CH1[BEEP], 30 PD5/UART2_TX, 31 PD6/UART2_RX, 32 PD7/TLI[TIM1_CH4]

## STM8S105K*B
designator IC?, comment Access line, 16 MHz STM8S 8-bit MCU up to 32 Kbytes Flash, integrated EEPROM,10-bit ADC, timers, UART, SPI, I²C   Source:  Data sheet
MPN: STM8S105K4B6; MPN: STM8S105K6B6; OC_FARNELL: unknown; OC_NEWARK: 55R6973; OC_NEWARK: 55R6976
footprint FDIP32
pins: 1 PD3/TIM2_CH2[ADC_ETR], 2 PD4/TIM2_CH1[BEEP], 3 PD5/UART2_TX, 4 PD6/UART2_RX, 5 PD7/TLI[TIM1_CH4], 6 NRST, 7 PA1/OSC, 8 PA2/OSCOUT, 9 VSS (power), 10 VCAP (power), 11 VDD (power), 12 VDDIO_1 (power), 13 PF4/AIN12, 14 VDDA (power), 15 VSSA (power), 16 PB5/AIN5[I2C_SDA], 17 PB4/AIN4[I2C_SCL], 18 PB3/AIN3[TIM1_ETR], 19 PB2/AIN2[TIM1_CH3N], 20 PB1/AIN1[TIM1_CH2N], 21 PB0/AIN0[TIM1_CH1N], 22 PE5/SPI_NSS, 23 PC1/TIM1_CH1/UART2_CK, 24 PC2/TIM1_CH2, 25 PC3/TIM1_CH3, 26 PC4/TIM1_CH4, 27 PC5/SPI_SCK, 28 PC6/SPI_MOSI, 29 PC7/SPI_MISO, 30 PD0/TIM3_CH2[TIM1_BKIN][CLK_CCO], 31 PD1/SWIM, 32 PD2/TIM3_CH1[TIM2_CH3]

## STM8S105KT
designator IC?, comment Access line, 16 MHz STM8S 8-bit MCU up to 32 Kbytes Flash, integrated EEPROM,10-bit ADC, timers, UART, SPI, I²C   Source:  Data sheet
MPN: STM8S105K4T6C; MPN: STM8S105K6T6C; OC_FARNELL: 1706223; OC_NEWARK: 09R6034; OC_FARNELL: 1706224; OC_NEWARK: 09R6035
footprint LQFP32-7X7
pins: 1 NRST, 2 PA1/OSC, 3 PA2/OSCOUT, 4 VSS (power), 5 VCAP (power), 6 VDD (power), 7 VDDIO_1 (power), 8 PF4/AIN12, 9 VDDA (power), 10 VSSA (power), 11 PB5/AIN5[I2C_SDA], 12 PB4/AIN4[I2C_SCL], 13 PB3/AIN3[TIM1_ETR], 14 PB2/AIN2[TIM1_CH3N], 15 PB1/AIN1[TIM1_CH2N], 16 PB0/AIN0[TIM1_CH1N], 17 PE5/SPI_NSS, 18 PC1/TIM1_CH1/UART2_CK, 19 PC2/TIM1_CH2, 20 PC3/TIM1_CH3, 21 PC4/TIM1_CH4, 22 PC5/SPI_SCK, 23 PC6/SPI_MOSI, 24 PC7/SPI_MISO, 25 PD0/TIM3_CH2[TIM1_BKIN][CLK_CCO], 26 PD1/SWIM, 27 PD2/TIM3_CH1[TIM2_CH3], 28 PD3/TIM2_CH2[ADC_ETR], 29 PD4/TIM2_CH1[BEEP], 30 PD5/UART2_TX, 31 PD6/UART2_RX, 32 PD7/TLI[TIM1_CH4]

## STM8S105KU
designator IC?, comment Access line, 16 MHz STM8S 8-bit MCU up to 32 Kbytes Flash, integrated EEPROM,10-bit ADC, timers, UART, SPI, I²C   Source:  Data sheet
MPN: STM8S105K6U6; OC_FARNELL: 1706225; OC_NEWARK: 09R6036
footprint VFQFPN32
pins: 1 NRST, 2 PA1/OSC, 3 PA2/OSCOUT, 4 VSS (power), 5 VCAP (power), 6 VDD (power), 7 VDDIO_1 (power), 8 PF4/AIN12, 9 VDDA (power), 10 VSSA (power), 11 PB5/AIN5[I2C_SDA], 12 PB4/AIN4[I2C_SCL], 13 PB3/AIN3[TIM1_ETR], 14 PB2/AIN2[TIM1_CH3N], 15 PB1/AIN1[TIM1_CH2N], 16 PB0/AIN0[TIM1_CH1N], 17 PE5/SPI_NSS, 18 PC1/TIM1_CH1/UART2_CK, 19 PC2/TIM1_CH2, 20 PC3/TIM1_CH3, 21 PC4/TIM1_CH4, 22 PC5/SPI_SCK, 23 PC6/SPI_MOSI, 24 PC7/SPI_MISO, 25 PD0/TIM3_CH2[TIM1_BKIN][CLK_CCO], 26 PD1/SWIM, 27 PD2/TIM3_CH1[TIM2_CH3], 28 PD3/TIM2_CH2[ADC_ETR], 29 PD4/TIM2_CH1[BEEP], 30 PD5/UART2_TX, 31 PD6/UART2_RX, 32 PD7/TLI[TIM1_CH4]

## STM8S105S
designator IC?, comment Access line, 16 MHz STM8S 8-bit MCU up to 32 Kbytes Flash, integrated EEPROM,10-bit ADC, timers, UART, SPI, I²C   Source:  Data sheet
MPN: STM8S105S4T6C; MPN: STM8S105S6T6C; OC_FARNELL: 1706227; OC_NEWARK: 09R6037; OC_FARNELL: 1706228; OC_NEWARK: 09R6038
footprint LQFP44-10X10
pins: 1 NRST, 2 PA1/OSC, 3 PA2/OSCOUT, 4 VSSIO_1 (power), 5 VSS (power), 6 VCAP (power), 7 VDD (power), 8 VDDIO_1 (power), 9 PA4, 10 PA5, 11 PA6, 12 VDDA (power), 13 VSSA (power), 14 PB7/AIN7, 15 PB6/AIN6, 16 PB5/AIN5[I2C_SDA], 17 PB4/AIN4[I2C_SCL], 18 PB3/AIN3[TIM1_ETR], 19 PB2/AIN2[TIM1_CH3N], 20 PB1/AIN1[TIM1_CH2N], 21 PB0/AIN0[TIM1_CH1N], 22 PE6/AIN9, 23 PE5/SPI_NSS, 24 PC1/TIM1_CH1/UART2_CK, 25 PC2/TIM1_CH2, 26 PC3/TIM1_CH3, 27 PC5/SPI_SCK, 28 VSSIO_2 (power), 29 VDDIO_2 (power), 30 PC6/SPI_MOSI, 31 PC7/SPI_MISO, 32 PG0, 33 PG1, 34 PE2/I2C_SDA, 35 PE1/I2C_SCL, 36 PE0/CLK_CCO, 37 PD0/TIM3_CH2[TIM1_BKIN][CLK_CCO], 38 PD1/SWIM, 39 PD2/TIM3_CH1[TIM2_CH3], 40 PD3/TIM2_CH2[ADC_ETR], 41 PD4/TIM2_CH1[BEEP], 42 PD5/UART2_TX, 43 PD6/UART2_RX, 44 PD7/TLI[TIM1_CH4]

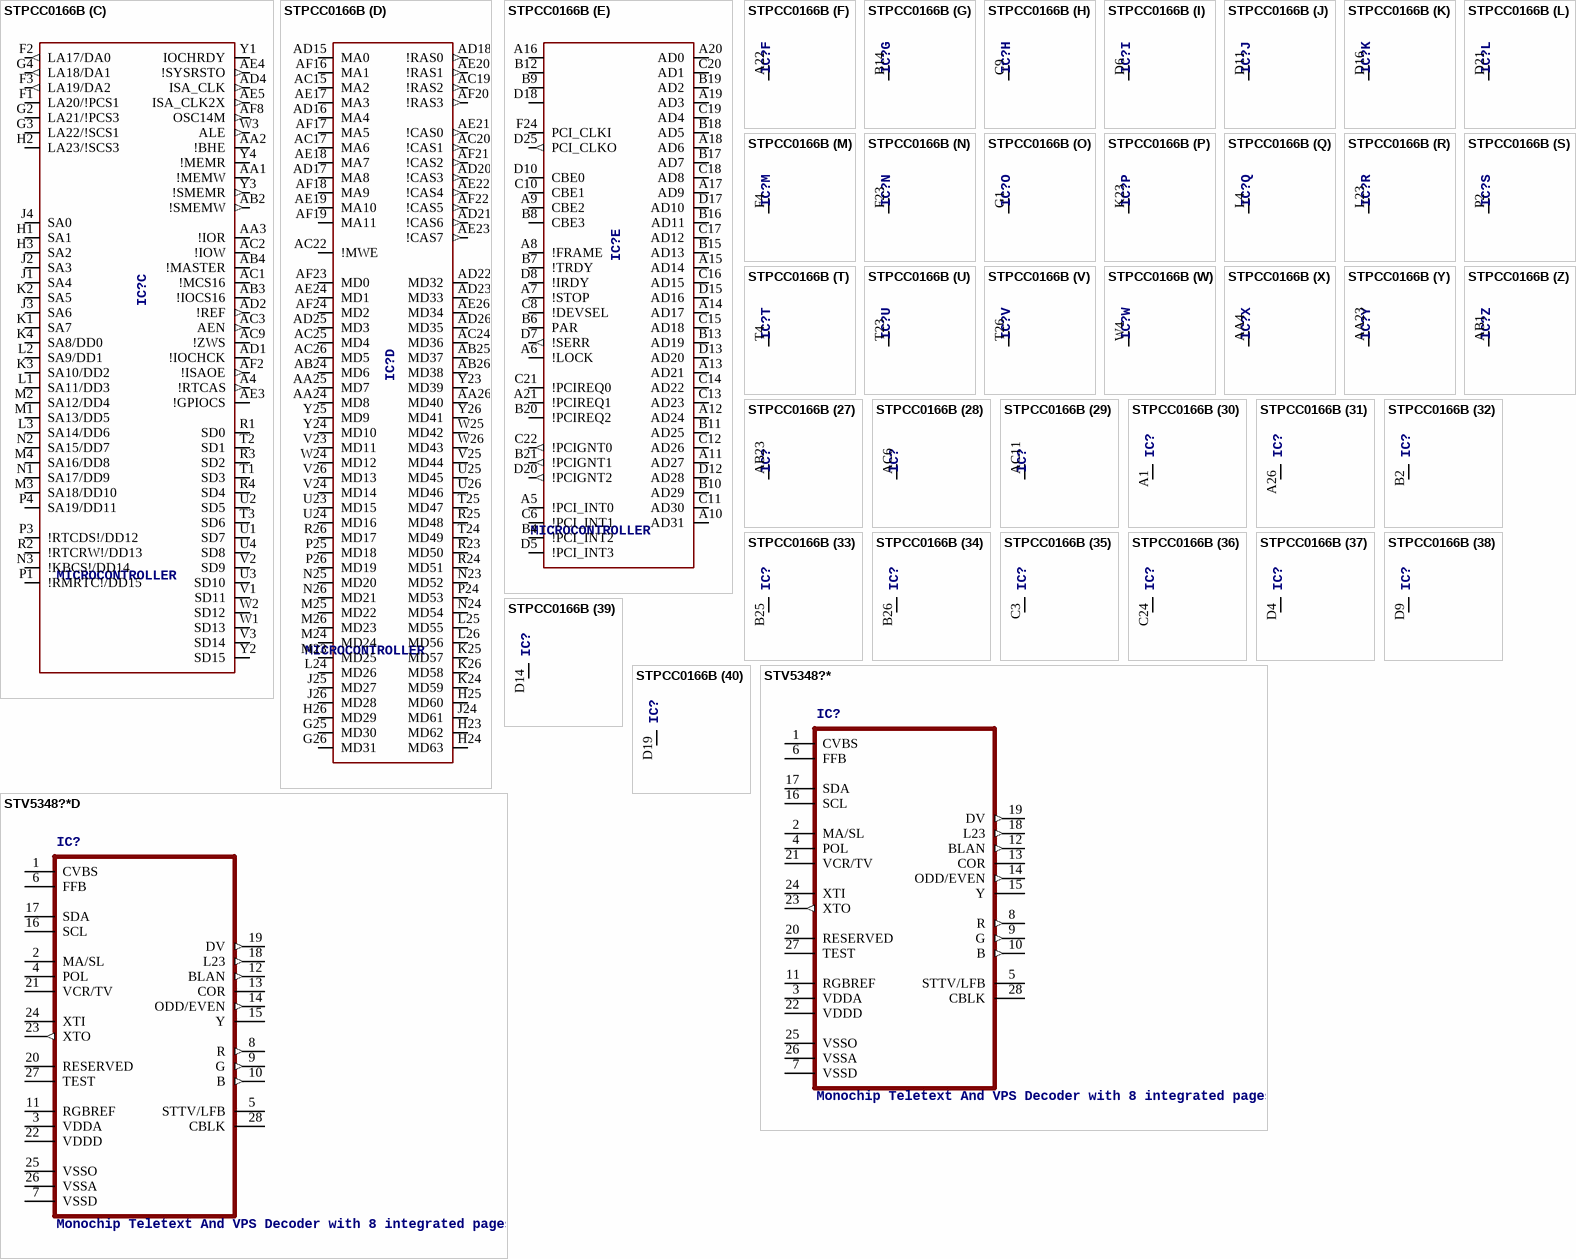
[diagram p6: symbols STPCC0166B to STV5348?*D]

## STPCC0166B
designator IC?, comment MICROCONTROLLER
MPN: STPCC5HEBC; OC_FARNELL: unknown; OC_NEWARK: 37M6674
footprint PBGA-388
part A pins: A3 XTALI, AF3 SYSRSTI, AF9 DCLK, AF15 GCLK2X, B3 SCAN_EN, C4 XTALO, F25 DEV_CLK (out), G23 HCLK (out)
part B pins: A23 DACK_ENC1 (out), A24 DREA_MUX0, B1 PIRQ, B22 DACK_ENC2 (out), B23 DREA_MUX1, C1 PDRQ, C2 SIRQ, C5 SPKRD (out), C23 DACK_ENC0 (out), C25 IRQ_MUX3, D1 !SDACK (out), D2 SDRQ, D3 !PDACK (out), D22 TC (out), D26 IRQ_MUX1, E1 !SIOW (out), E2 !PIOR, E3 !SIOR, E4 !PIOW (out), E23 IRQ_MUX0, E24 IRQ_MUX2
part C pins: A4 !RTCAS (out), AA1 !MEMW, AA2 !BHE, AA3 !IOR, AB2 !SMEMW (out), AB3 !IOCS16, AB4 !MASTER, AC1 !MCS16, AC2 !IOW, AC3 AEN (out), AC9 !ZWS, AD1 !IOCHCK, AD2 !REF (out), AD4 ISA_CLK (out), AE3 !GPIOCS, AE4 !SYSRSTO (out), AE5 ISA_CLK2X (out), AF2 !ISAOE (out), AF8 OSC14M (out), F1 LA20/!PCS1, F2 LA17/DA0 (out), F3 LA19/DA2 (out), G2 LA21/!PCS3, G3 LA22/!SCS1, G4 LA18/DA1 (out), H1 SA1, H2 LA23/!SCS3, H3 SA2, J1 SA4, J2 SA3, J3 SA6, J4 SA0, K1 SA7, K2 SA5, K3 SA10/DD2, K4 SA8/DD0, L1 SA11/DD3, L2 SA9/DD1, L3 SA14/DD6, M1 SA13/DD5, M2 SA12/DD4, M3 SA18/DD10, M4 SA16/DD8, N1 SA17/DD9, N2 SA15/DD7, N3 !KBCS!/DD14, P1 !RMRTC!/DD15, P3 !RTCDS!/DD12, P4 SA19/DD11, R1 SD0, R2 !RTCRW!/DD13, R3 SD2, R4 SD4, T1 SD3, T2 SD1, T3 SD6, U1 SD7, U2 SD5, U3 SD10, U4 SD8, V1 SD11, V2 SD9, V3 SD14, W1 SD13, W2 SD12, W3 ALE (out), Y1 IOCHRDY, Y2 SD15, Y3 !SMEMR (out), Y4 !MEMR
part D pins: AA24 MD8, AA25 MD7, AA26 MD40, AB24 MD6, AB25 MD37, AB26 MD38, AC15 MA2, AC17 MA6, AC19 !RAS2 (out), AC20 !CAS1 (out), AC22 !MWE, AC24 MD36, AC25 MD4, AC26 MD5, AD15 MA0, AD16 MA4, AD17 MA8, AD18 !RAS0 (out), AD20 !CAS3 (out), AD21 !CAS6 (out), AD22 MD32, AD23 MD33, AD25 MD3, AD26 MD35, AE17 MA3, AE18 MA7, AE19 MA10, AE20 !RAS1 (out), AE21 !CAS0 (out), AE22 !CAS4 (out), AE23 !CAS7 (out), AE24 MD1, AE26 MD34, AF16 MA1, AF17 MA5, AF18 MA9, AF19 MA11, AF20 !RAS3 (out), AF21 !CAS2 (out), AF22 !CAS5 (out), AF23 MD0, AF24 MD2, G25 MD30, G26 MD31, H23 MD62, H24 MD63, H25 MD60, H26 MD29, J24 MD61, J25 MD27, J26 MD28, K24 MD59, K25 MD57, K26 MD58, L24 MD26, L25 MD55, L26 MD56, M23 MD25, M24 MD24, M25 MD22, M26 MD23, N23 MD52, N24 MD54, N25 MD20, N26 MD21, P24 MD53, P25 MD18, P26 MD19, R23 MD50, R24 MD51, R25 MD48, R26 MD17, T24 MD49, T25 MD47, U23 MD15, U24 MD16, U25 MD45, U26 MD46, V23 MD11, V24 MD14, V25 MD44, V26 MD13, W24 MD12, W25 MD42, W26 MD43, Y23 MD39, Y24 MD10, Y25 MD9, Y26 MD41
part E pins: A5 !PCI_INT0, A6 !LOCK, A7 !STOP, A8 !FRAME, A9 CBE2, A10 AD31, A11 AD27, A12 AD24, A13 AD21, A14 AD17, A15 AD14, A16 VDD5@1 (power), A17 AD9, A18 AD6, A19 AD3, A20 AD0, A21 !PCIREQ1, B4 !PCI_INT2, B6 PAR, B7 !TRDY, B8 CBE3, B9 VDD5@3 (power), B10 AD29, B11 AD25, B12 VDD5@2 (power), B13 AD19, B15 AD13, B16 AD11, B17 AD7, B18 AD5, B19 AD2, B20 !PCIREQ2, B21 !PCIGNT1 (out), C6 !PCI_INT1, C8 !DEVSEL, C10 CBE1, C11 AD30, C12 AD26, C13 AD23, C14 AD22, C15 AD18, C16 AD15, C17 AD12, C18 AD8, C19 AD4, C20 AD1, C21 !PCIREQ0, C22 !PCIGNT0 (out), D5 !PCI_INT3, D7 !SERR (out), D8 !IRDY, D10 CBE0, D12 AD28, D13 AD20, D15 AD16, D17 AD10, D18 VDD5@4 (power), D20 !PCIGNT2 (out), D25 PCI_CLKO (out), F24 PCI_CLKI
part F pins: A22 VDD (power)
part G pins: B14 VDD (power)
part H pins: C9 VDD (power)
part I pins: D6 VDD (power)
part J pins: D11 VDD (power)
part K pins: D16 VDD (power)
part L pins: D21 VDD (power)
part M pins: F4 VDD (power)
part N pins: F23 VDD (power)
part O pins: G1 VDD (power)
part P pins: K23 VDD (power)
part Q pins: L4 VDD (power)
part R pins: L23 VDD (power)
part S pins: P2 VDD (power)
part T pins: T4 VDD (power)
part U pins: T23 VDD (power)
part V pins: T26 VDD (power)
part W pins: W4 VDD (power)
part X pins: AA4 VDD (power)
part Y pins: AA23 VDD (power)
part Z pins: AB1 VDD (power)
part 27 pins: AB23 VDD (power)
part 28 pins: AC6 VDD (power)
part 29 pins: AC11 VDD (power)
part 30 pins: A1 VSS (power)
part 31 pins: A26 VSS (power)
part 32 pins: B2 VSS (power)
part 33 pins: B25 VSS (power)
part 34 pins: B26 VSS (power)
part 35 pins: C3 VSS (power)
part 36 pins: C24 VSS (power)
part 37 pins: D4 VSS (power)
part 38 pins: D9 VSS (power)
part 39 pins: D14 VSS (power)
part 40 pins: D19 VSS (power)
part 41 pins: D23 VSS (power)
part 42 pins: H4 VSS (power)
part 43 pins: J23 VSS (power)
part 44 pins: L11 VSS (power)
part 45 pins: L12 VSS (power)
part 46 pins: L13 VSS (power)
part 47 pins: L14 VSS (power)
part 48 pins: L15 VSS (power)
part 49 pins: L16 VSS (power)
part 50 pins: M11 VSS (power)
part 51 pins: M12 VSS (power)
part 52 pins: M13 VSS (power)
part 53 pins: M14 VSS (power)
part 54 pins: AC16 VDD (power)
part 55 pins: AC21 VDD (power)
part 56 pins: M15 VSS (power)
part 57 pins: M16 VSS (power)
part 58 pins: N4 VSS (power)
part 59 pins: N11 VSS (power)
part 60 pins: N12 VSS (power)
part 61 pins: N13 VSS (power)
part 62 pins: N14 VSS (power)
part 63 pins: N15 VSS (power)
part 64 pins: N16 VSS (power)
part 65 pins: P11 VSS (power)
part 66 pins: P12 VSS (power)
part 67 pins: P13 VSS (power)
part 68 pins: P14 VSS (power)
part 69 pins: P15 VSS (power)
part 70 pins: P16 VSS (power)
part 71 pins: P23 VSS (power)
part 72 pins: R11 VSS (power)
part 73 pins: R12 VSS (power)
part 74 pins: R13 VSS (power)
part 75 pins: R14 VSS (power)
part 76 pins: R15 VSS (power)
part 77 pins: R16 VSS (power)
part 78 pins: T11 VSS (power)
part 79 pins: T12 VSS (power)
part 80 pins: T13 VSS (power)
part 81 pins: T14 VSS (power)
part 82 pins: T15 VSS (power)
part 83 pins: T16 VSS (power)
part 84 pins: V4 VSS (power)
part 85 pins: W23 VSS (power)
part 86 pins: AC4 VSS (power)
part 87 pins: AC8 VSS (power)
part 88 pins: AC13 VSS (power)
part 89 pins: AC18 VSS (power)
part 90 pins: AC23 VSS (power)
part 91 pins: AD3 VSS (power)
part 92 pins: AD24 VSS (power)
part 93 pins: AE1 VSS (power)
part 94 pins: AE2 VSS (power)
part 95 pins: AE16 VSS (power)
part 96 pins: AE25 VSS (power)
part 97 pins: AF1 VSS (power)
part 98 pins: AF25 VSS (power)
part 99 pins: AF26 VSS (power)
part 100 pins: C26 RESERVED
part 101 pins: D24 RESERVED
part 102 pins: B24 RESERVED
part 103 pins: A25 RESERVED
part 104 pins: AC5 HSYNC (out), AC7 VDD_DAC1, AC10 GREEN_TV (out), AC12 VCLK, AC14 VIN4, AD5 VSYNC (out), AD6 GREEN (out), AD7 VREF_DAC, AD8 IREF1_TV, AD9 ODD_EVEN (out), AD10 VREF2_TV, AD11 CVBS (out), AD12 VIN2, AD13 VIN6, AD14 VIN1, AD19 VDDGCKPLL, AE6 RED (out), AE7 VSS_DAC1, AE8 RSET, AE9 VREF1_TV, AE10 VCS (out), AE11 IREF2_TV, AE12 VSSA_TV, AE13 VIN0, AE14 VIN3, AE15 VIN7, AF4 VDD_DAC2, AF5 COMP, AF6 BLUE (out), AF7 VSS_DAC2, AF10 RED_TV (out), AF11 BLUE_TV (out), AF12 VDDA_TV, AF13 VDDDCKPLL, AF14 VIN5, B5 SLC/DDC1, C7 SDA/DDC0, E25 VSS_DLL1, E26 VSS_DLL2, F26 VDDHCKPLL, G24 VDDDEVPLL
part 105 pins: A2 VSS (power)

## STV5348?*
designator IC?, comment Monochip Teletext And VPS Decoder with 8 integrated pages
OC_FARNELL: unknown; OC_NEWARK: unknown
footprint DIL28-6
pins: 1 CVBS, 2 MA/SL, 3 VDDA (power), 4 POL, 5 STTV/LFB, 6 FFB, 7 VSSD (power), 8 R (out), 9 G (out), 10 B (out), 11 RGBREF (power), 12 BLAN (out), 13 COR (oc), 14 ODD/EVEN (out), 15 Y (oc), 16 SCL, 17 SDA, 18 L23 (out), 19 DV (out), 20 RESERVED, 21 VCR/TV, 22 VDDD (power), 23 XTO (out), 24 XTI, 25 VSSO (power), 26 VSSA (power), 27 TEST, 28 CBLK

## STV5348?*D
designator IC?, comment Monochip Teletext And VPS Decoder with 8 integrated pages
OC_FARNELL: unknown; OC_NEWARK: unknown
footprint SO28W
pins: 1 CVBS, 2 MA/SL, 3 VDDA (power), 4 POL, 5 STTV/LFB, 6 FFB, 7 VSSD (power), 8 R (out), 9 G (out), 10 B (out), 11 RGBREF (power), 12 BLAN (out), 13 COR (oc), 14 ODD/EVEN (out), 15 Y (oc), 16 SCL, 17 SDA, 18 L23 (out), 19 DV (out), 20 RESERVED, 21 VCR/TV, 22 VDDD (power), 23 XTO (out), 24 XTI, 25 VSSO (power), 26 VSSA (power), 27 TEST, 28 CBLK

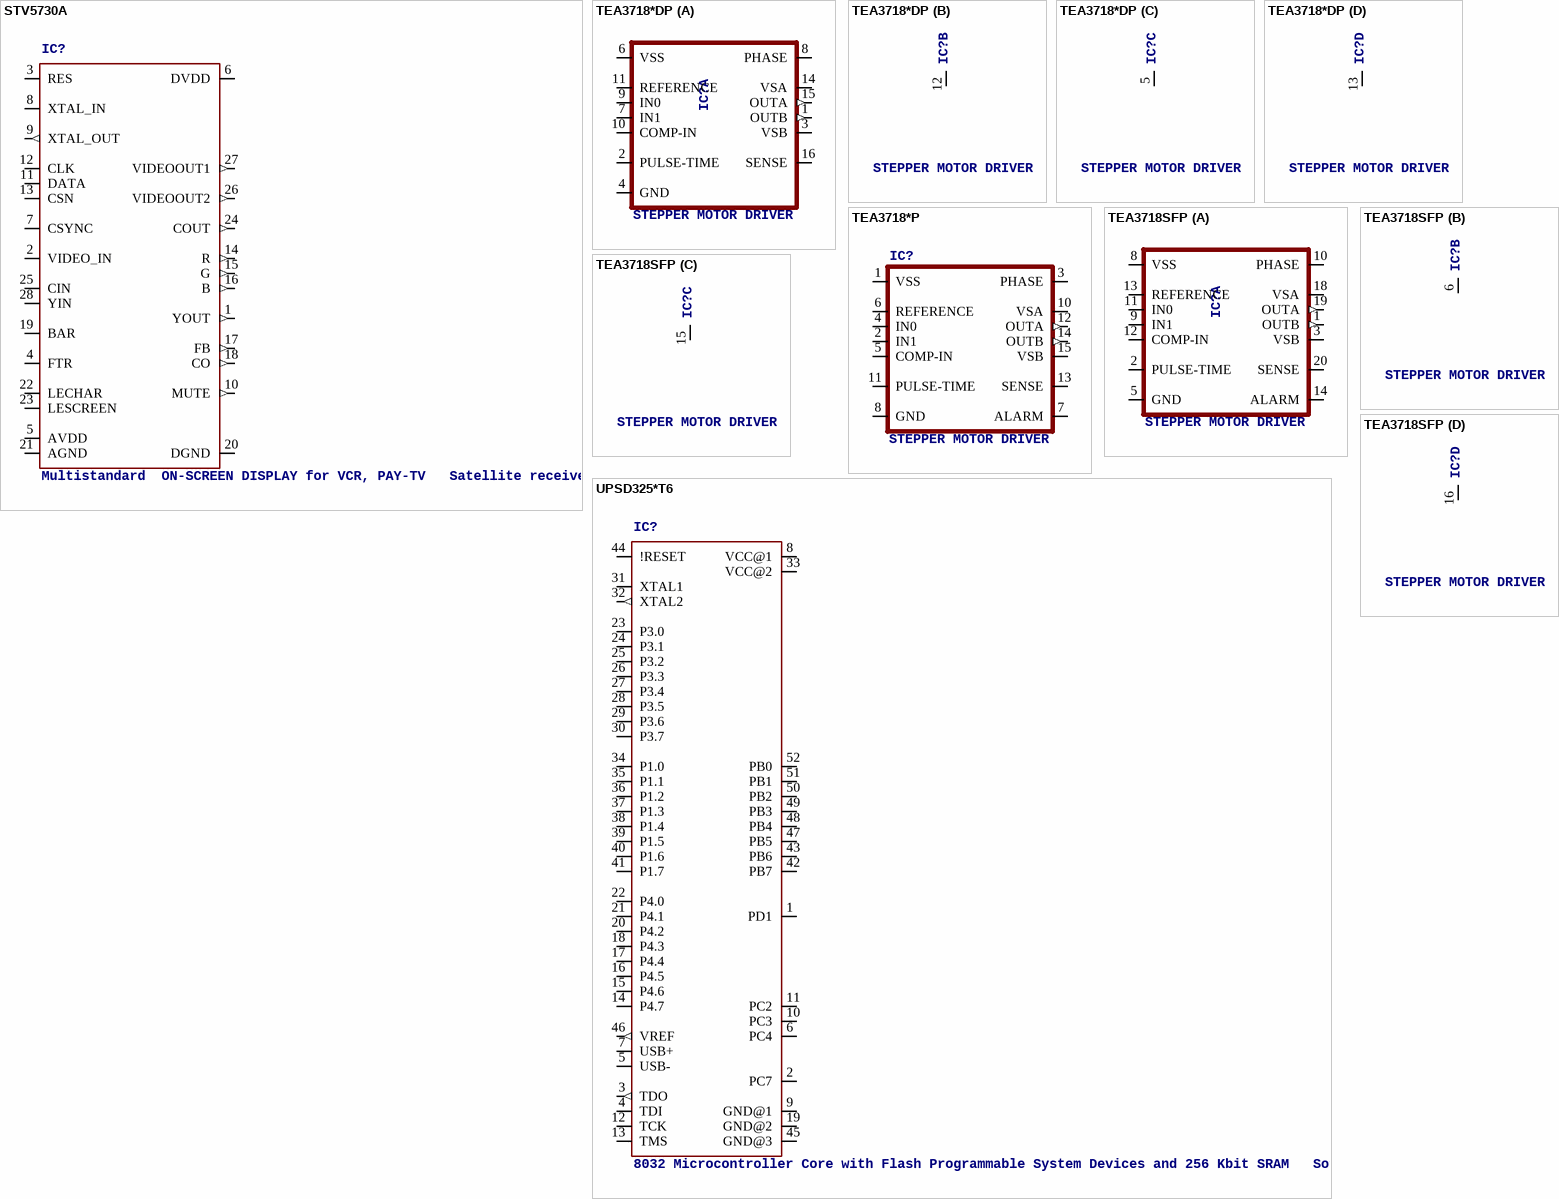
[diagram p7: symbols STV5730A to UPSD325*T6]

## STV5730A
designator IC?, comment Multistandard  ON-SCREEN DISPLAY for VCR, PAY-TV   Satellite receiver
OC_FARNELL: unknown; OC_NEWARK: unknown
footprint SO28W
pins: 1 YOUT (out), 2 VIDEO_IN, 3 RES, 4 FTR, 5 AVDD (power), 6 DVDD (power), 7 CSYNC, 8 XTAL_IN, 9 XTAL_OUT (out), 10 MUTE (out), 11 DATA, 12 CLK, 13 CSN, 14 R (out), 15 G (out), 16 B (out), 17 FB (out), 18 CO (out), 19 BAR, 20 DGND (power), 21 AGND (power), 22 LECHAR, 23 LESCREEN, 24 COUT (out), 25 CIN, 26 VIDEOOUT2 (out), 27 VIDEOOUT1 (out), 28 YIN

## TEA3718*DP
designator IC?, comment STEPPER MOTOR DRIVER
MPN: E-TEA3718DP; MPN: E-TEA3718SDP; OC_FARNELL: 1159696; OC_NEWARK: 91K9593; OC_FARNELL: unknown; OC_NEWARK: 56P7421
footprint DIL16
part A pins: 1 OUTB (out), 2 PULSE-TIME, 3 VSB (power), 4 GND (power), 6 VSS (power), 7 IN1, 8 PHASE, 9 IN0, 10 COMP-IN, 11 REFERENCE, 14 VSA (power), 15 OUTA (out), 16 SENSE
part B pins: 12 GND (power)
part C pins: 5 GND (power)
part D pins: 13 GND (power)

## TEA3718*P
designator IC?, comment STEPPER MOTOR DRIVER
MPN: E-TEA3718SP; OC_FARNELL: unknown; OC_NEWARK: 37M2588
footprint MULTIWATT-15
pins: 1 VSS (power), 2 IN1, 3 PHASE, 4 IN0, 5 COMP-IN, 6 REFERENCE, 7 ALARM (oc), 8 GND (power), 10 VSA (power), 11 PULSE-TIME, 12 OUTA (out), 13 SENSE, 14 OUTB (out), 15 VSB (power)

## TEA3718SFP
designator IC?, comment STEPPER MOTOR DRIVER
MPN: E-TEA3718SFP; OC_FARNELL: unknown; OC_NEWARK: 56P7422
footprint SO20
part A pins: 1 OUTB (out), 2 PULSE-TIME, 3 VSB (power), 5 GND (power), 8 VSS (power), 9 IN1, 10 PHASE, 11 IN0, 12 COMP-IN, 13 REFERENCE, 14 ALARM (oc), 18 VSA (power), 19 OUTA (out), 20 SENSE
part B pins: 6 GND (power)
part C pins: 15 GND (power)
part D pins: 16 GND (power)

## UPSD325*T6
designator IC?, comment 8032 Microcontroller Core with Flash Programmable System Devices and 256 Kbit SRAM   Sourece: www.st.com/stonline/books/pdf/docs/9202.pdf
MPN: UPSD3253B-40T6; MPN: UPSD3253BV-24T6; MPN: UPSD3254A-40T6; OC_FARNELL: unknown; OC_NEWARK: 57P4778; OC_NEWARK: 37M9123; OC_NEWARK: 57P4780
footprint TQFP-10X10-52
pins: 1 PD1, 2 PC7, 3 TDO (out), 4 TDI, 5 USB-, 6 PC4, 7 USB+, 8 VCC@1 (power), 9 GND@1 (power), 10 PC3, 11 PC2, 12 TCK, 13 TMS, 14 P4.7, 15 P4.6, 16 P4.5, 17 P4.4, 18 P4.3, 19 GND@2 (power), 20 P4.2, 21 P4.1, 22 P4.0, 23 P3.0, 24 P3.1, 25 P3.2, 26 P3.3, 27 P3.4, 28 P3.5, 29 P3.6, 30 P3.7, 31 XTAL1, 32 XTAL2 (out), 33 VCC@2 (power), 34 P1.0, 35 P1.1, 36 P1.2, 37 P1.3, 38 P1.4, 39 P1.5, 40 P1.6, 41 P1.7, 42 PB7, 43 PB6, 44 !RESET, 45 GND@3 (power), 46 VREF (out), 47 PB5, 48 PB4, 49 PB3, 50 PB2, 51 PB1, 52 PB0

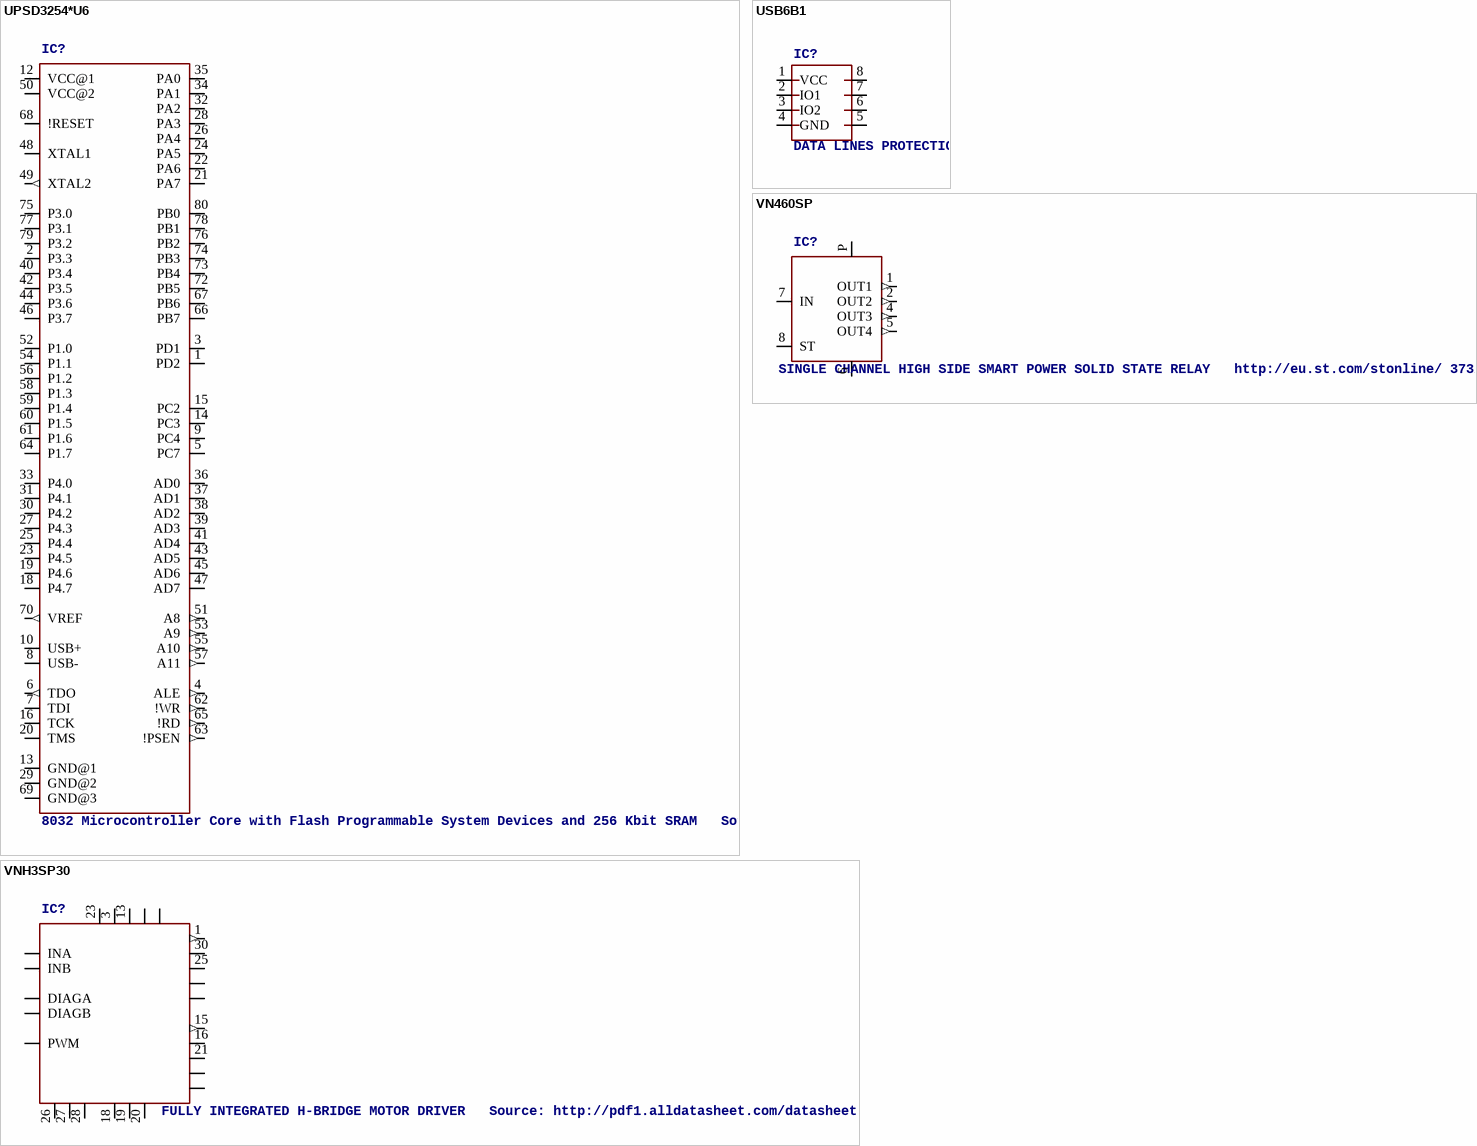
[diagram p8: symbols UPSD3254*U6 to VNH3SP30]

## UPSD3254*U6
designator IC?, comment 8032 Microcontroller Core with Flash Programmable System Devices and 256 Kbit SRAM   Sourece: www.st.com/stonline/books/pdf/docs/9202.pdf
MPN: UPSD3254A-40U6; MPN: UPSD3254BV-24U6; OC_FARNELL: 1796098; OC_NEWARK: 37M9124; OC_FARNELL: unknown; OC_NEWARK: 57P4782
footprint TQFP-12X12-80
pins: 1 PD2, 2 P3.3, 3 PD1, 4 ALE (out), 5 PC7, 6 TDO (out), 7 TDI, 8 USB-, 9 PC4, 10 USB+, 12 VCC@1 (power), 13 GND@1 (power), 14 PC3, 15 PC2, 16 TCK, 18 P4.7, 19 P4.6, 20 TMS, 21 PA7, 22 PA6, 23 P4.5, 24 PA5, 25 P4.4, 26 PA4, 27 P4.3, 28 PA3, 29 GND@2 (power), 30 P4.2, 31 P4.1, 32 PA2, 33 P4.0, 34 PA1, 35 PA0, 36 AD0, 37 AD1, 38 AD2, 39 AD3, 40 P3.4, 41 AD4, 42 P3.5, 43 AD5, 44 P3.6, 45 AD6, 46 P3.7, 47 AD7, 48 XTAL1, 49 XTAL2 (out), 50 VCC@2 (power), 51 A8 (out), 52 P1.0, 53 A9 (out), 54 P1.1, 55 A10 (out), 56 P1.2, 57 A11 (out), 58 P1.3, 59 P1.4, 60 P1.5, 61 P1.6, 62 !WR (out), 63 !PSEN (out), 64 P1.7, 65 !RD (out), 66 PB7, 67 PB6, 68 !RESET, 69 GND@3 (power), 70 VREF (out), 72 PB5, 73 PB4, 74 PB3, 75 P3.0, 76 PB2, 77 P3.1, 78 PB1, 79 P3.2, 80 PB0

## USB6B1
designator IC?, comment DATA LINES PROTECTION    Source: http://www.st.com/stonline/products/literature/ds/5605.pdf
MPN: USB6B1; OC_FARNELL: 9804358; OC_NEWARK: 26M4750
footprint SO08
pins: 1 VCC (power), 2 IO1, 3 IO2, 4 GND (power), 5 GND@2 (power), 6 IO2@2, 7 IO1@2, 8 VCC@2 (power)

## VN460SP
designator IC?, comment SINGLE CHANNEL HIGH SIDE SMART POWER SOLID STATE RELAY   http://eu.st.com/stonline/ 3732.pdf and 5691.pdf
MPN: VN460SP; OC_FARNELL: unknown; OC_NEWARK: 57P5296
footprint POWER-SO10
pins: 1 OUT1 (out), 2 OUT2 (out), 4 OUT3 (out), 5 OUT4 (out), 6 GND (power), 7 IN, 8 ST, P VCC (power)

## VNH3SP30
designator IC?, comment FULLY INTEGRATED H-BRIDGE MOTOR DRIVER   Source: http://pdf1.alldatasheet.com/datasheet-pdf/view/84563/STMICROELECTRONICS/VNH3SP30.html
MPN: VNH3SP30-E; OC_FARNELL: 1739420; OC_NEWARK: 33R1486
footprint MULTIPOWERSO-30
pins: 1 OUTA (out), 3 VCC (power), 5 INA, 6 DIAGA (oc), 8 PWM, 10 DIAGB (oc), 11 INB, 13 VCC@1 (power), 15 OUTB (out), 16 OUTB@1, 18 GNDB (power), 19 GNDB@1 (power), 20 GNDB@2 (power), 21 OUTB@2, 23 VCC@2 (power), 25 OUTA@2, 26 GNDA@2 (power), 27 GNDA@1 (power), 28 GNDA (power), 30 OUTA@1, OUTA OUTA@3, OUTA@1 OUTA@4, OUTB OUTB@3, OUTB@1 OUTB@4, VCC VCC@3 (power), VCC@1 VCC@4 (power)